# Altium integrated library ST Microcontroller 8-Bit.IntLib: 1326 symbols (part 19 of 45)
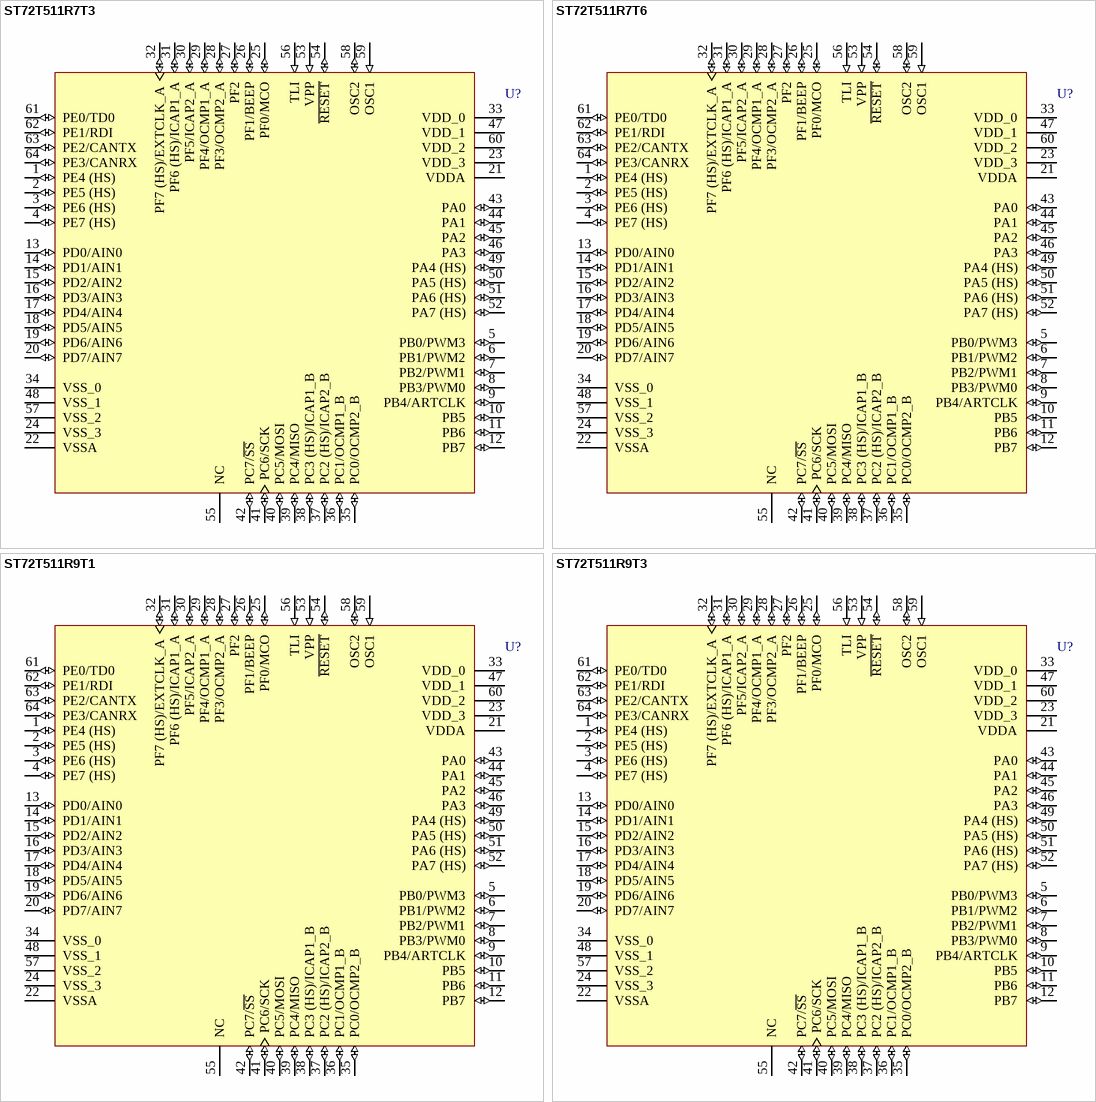
[diagram p185: symbols ST72T511R7T3 to ST72T511R9T3]

## ST72T511R7T6
designator U?
8-Bit 48k OTP MCU with Nested Interrupts, 1536b RAM, ADC, 16-Bit Timers, 8-Bit PWM ART, SPI, SCI and CAN Interfaces, 64-Pin TQFP, Industrial; Note: Pins 5-12, 25-27 and 43-46 are External Interrupt (EI) pins.; Published: 26-May-2004; LatestRevisionDate: 13-Apr-2006; LatestRevisionNote: IPC-7351 Footprint Added.; DatasheetVersion: rev2.7, Apr-2003; PackageVersion: rev2.4, Jan-2002; PackageReference: TQFP64-0.8; Publisher: Altium Limited; PackageDescription: 64-Pin Thin Quad Flat Pack 0.8 mm Pitch; ComponentLink1Description: Manufacturer Link; ComponentLink1URL: http://www.st.com/; ComponentLink2Description: Datasheet; ComponentLink2URL: http://www.st.com/stonline/products/literature/ds/6810/st72511r6.pdf
footprint TQFP64-0.8_N (Thin QFP, 64-Leads, Body 14x14mm, Pitch 0.8mm, IPC Medium Density)
footprint TQFP64-0.8_L (Thin QFP, 64-Leads, Body 14x14mm, Pitch 0.8mm, IPC High Density)
footprint TQFP64-0.8_M (Thin QFP, 64-Leads, Body 14x14mm, Pitch 0.8mm, IPC Low Density)
3D model ST72T511-TQFP64-0_8 (64-Pin Thin Quad Flat Pack 0.8 mm Pitch)
pins: 1 PE4 (HS) (io), 2 PE5 (HS) (io), 3 PE6 (HS) (io), 4 PE7 (HS) (io), 5 PB0/PWM3 (io), 6 PB1/PWM2 (io), 7 PB2/PWM1 (io), 8 PB3/PWM0 (io), 9 PB4/ARTCLK (io), 10 PB5 (io), 11 PB6 (io), 12 PB7 (io), 13 PD0/AIN0 (io), 14 PD1/AIN1 (io), 15 PD2/AIN2 (io), 16 PD3/AIN3 (io), 17 PD4/AIN4 (io), 18 PD5/AIN5 (io), 19 PD6/AIN6 (io), 20 PD7/AIN7 (io), 21 VDDA (power), 22 VSSA (power), 23 VDD_3 (power), 24 VSS_3 (power), 25 PF0/MCO (io), 26 PF1/BEEP (io), 27 PF2 (io), 28 PF3/OCMP2_A (io), 29 PF4/OCMP1_A (io), 30 PF5/ICAP2_A (io), 31 PF6 (HS)/ICAP1_A (io), 32 PF7 (HS)/EXTCLK_A (io), 33 VDD_0 (power), 34 VSS_0 (power), 35 PC0/OCMP2_B (io), 36 PC1/OCMP1_B (io), 37 PC2 (HS)/ICAP2_B (io), 38 PC3 (HS)/ICAP1_B (io), 39 PC4/MISO (io), 40 PC5/MOSI (io), 41 PC6/SCK (io), 42 PC7/~{SS} (io), 43 PA0 (io), 44 PA1 (io), 45 PA2 (io), 46 PA3 (io), 47 VDD_1 (power), 48 VSS_1 (power), 49 PA4 (HS) (io), 50 PA5 (HS) (io), 51 PA6 (HS) (io), 52 PA7 (HS) (io), 53 VPP (in), 54 ~{RESET} (io), 55 NC, 56 TLI (in), 57 VSS_2 (power), 58 OSC2 (io), 59 OSC1 (in), 60 VDD_2 (power), 61 PE0/TD0 (io), 62 PE1/RDI (io), 63 PE2/CANTX (io), 64 PE3/CANRX (io)

## ST72T511R9T1
designator U?
8-Bit 60k OTP MCU with Nested Interrupts, 2048b RAM, ADC, 16-Bit Timers, 8-Bit PWM ART, SPI, SCI and CAN Interfaces, 64-Pin TQFP, Standard; Note: Pins 5-12, 25-27 and 43-46 are External Interrupt (EI) pins.; Published: 26-May-2004; LatestRevisionDate: 13-Apr-2006; LatestRevisionNote: IPC-7351 Footprint Added.; DatasheetVersion: rev2.7, Apr-2003; PackageVersion: rev2.4, Jan-2002; PackageReference: TQFP64-0.8; Publisher: Altium Limited; PackageDescription: 64-Pin Thin Quad Flat Pack 0.8 mm Pitch; ComponentLink1Description: Manufacturer Link; ComponentLink1URL: http://www.st.com/; ComponentLink2Description: Datasheet; ComponentLink2URL: http://www.st.com/stonline/products/literature/ds/6810/st72511r9.pdf
footprint TQFP64-0.8_N (Thin QFP, 64-Leads, Body 14x14mm, Pitch 0.8mm, IPC Medium Density)
footprint TQFP64-0.8_L (Thin QFP, 64-Leads, Body 14x14mm, Pitch 0.8mm, IPC High Density)
footprint TQFP64-0.8_M (Thin QFP, 64-Leads, Body 14x14mm, Pitch 0.8mm, IPC Low Density)
3D model ST72T511-TQFP64-0_8 (64-Pin Thin Quad Flat Pack 0.8 mm Pitch)
pins: 1 PE4 (HS) (io), 2 PE5 (HS) (io), 3 PE6 (HS) (io), 4 PE7 (HS) (io), 5 PB0/PWM3 (io), 6 PB1/PWM2 (io), 7 PB2/PWM1 (io), 8 PB3/PWM0 (io), 9 PB4/ARTCLK (io), 10 PB5 (io), 11 PB6 (io), 12 PB7 (io), 13 PD0/AIN0 (io), 14 PD1/AIN1 (io), 15 PD2/AIN2 (io), 16 PD3/AIN3 (io), 17 PD4/AIN4 (io), 18 PD5/AIN5 (io), 19 PD6/AIN6 (io), 20 PD7/AIN7 (io), 21 VDDA (power), 22 VSSA (power), 23 VDD_3 (power), 24 VSS_3 (power), 25 PF0/MCO (io), 26 PF1/BEEP (io), 27 PF2 (io), 28 PF3/OCMP2_A (io), 29 PF4/OCMP1_A (io), 30 PF5/ICAP2_A (io), 31 PF6 (HS)/ICAP1_A (io), 32 PF7 (HS)/EXTCLK_A (io), 33 VDD_0 (power), 34 VSS_0 (power), 35 PC0/OCMP2_B (io), 36 PC1/OCMP1_B (io), 37 PC2 (HS)/ICAP2_B (io), 38 PC3 (HS)/ICAP1_B (io), 39 PC4/MISO (io), 40 PC5/MOSI (io), 41 PC6/SCK (io), 42 PC7/~{SS} (io), 43 PA0 (io), 44 PA1 (io), 45 PA2 (io), 46 PA3 (io), 47 VDD_1 (power), 48 VSS_1 (power), 49 PA4 (HS) (io), 50 PA5 (HS) (io), 51 PA6 (HS) (io), 52 PA7 (HS) (io), 53 VPP (in), 54 ~{RESET} (io), 55 NC, 56 TLI (in), 57 VSS_2 (power), 58 OSC2 (io), 59 OSC1 (in), 60 VDD_2 (power), 61 PE0/TD0 (io), 62 PE1/RDI (io), 63 PE2/CANTX (io), 64 PE3/CANRX (io)

## ST72T511R9T3
designator U?
8-Bit 60k OTP MCU with Nested Interrupts, 2048b RAM, ADC, 16-Bit Timers, 8-Bit PWM ART, SPI, SCI and CAN Interfaces, 64-Pin TQFP, Automotive; Note: Pins 5-12, 25-27 and 43-46 are External Interrupt (EI) pins.; Published: 26-May-2004; LatestRevisionDate: 13-Apr-2006; LatestRevisionNote: IPC-7351 Footprint Added.; DatasheetVersion: rev2.7, Apr-2003; PackageVersion: rev2.4, Jan-2002; PackageReference: TQFP64-0.8; Publisher: Altium Limited; PackageDescription: 64-Pin Thin Quad Flat Pack 0.8 mm Pitch; ComponentLink1Description: Manufacturer Link; ComponentLink1URL: http://www.st.com/; ComponentLink2Description: Datasheet; ComponentLink2URL: http://www.st.com/stonline/products/literature/ds/6810/st72511r9.pdf
footprint TQFP64-0.8_N (Thin QFP, 64-Leads, Body 14x14mm, Pitch 0.8mm, IPC Medium Density)
footprint TQFP64-0.8_L (Thin QFP, 64-Leads, Body 14x14mm, Pitch 0.8mm, IPC High Density)
footprint TQFP64-0.8_M (Thin QFP, 64-Leads, Body 14x14mm, Pitch 0.8mm, IPC Low Density)
3D model ST72T511-TQFP64-0_8 (64-Pin Thin Quad Flat Pack 0.8 mm Pitch)
pins: 1 PE4 (HS) (io), 2 PE5 (HS) (io), 3 PE6 (HS) (io), 4 PE7 (HS) (io), 5 PB0/PWM3 (io), 6 PB1/PWM2 (io), 7 PB2/PWM1 (io), 8 PB3/PWM0 (io), 9 PB4/ARTCLK (io), 10 PB5 (io), 11 PB6 (io), 12 PB7 (io), 13 PD0/AIN0 (io), 14 PD1/AIN1 (io), 15 PD2/AIN2 (io), 16 PD3/AIN3 (io), 17 PD4/AIN4 (io), 18 PD5/AIN5 (io), 19 PD6/AIN6 (io), 20 PD7/AIN7 (io), 21 VDDA (power), 22 VSSA (power), 23 VDD_3 (power), 24 VSS_3 (power), 25 PF0/MCO (io), 26 PF1/BEEP (io), 27 PF2 (io), 28 PF3/OCMP2_A (io), 29 PF4/OCMP1_A (io), 30 PF5/ICAP2_A (io), 31 PF6 (HS)/ICAP1_A (io), 32 PF7 (HS)/EXTCLK_A (io), 33 VDD_0 (power), 34 VSS_0 (power), 35 PC0/OCMP2_B (io), 36 PC1/OCMP1_B (io), 37 PC2 (HS)/ICAP2_B (io), 38 PC3 (HS)/ICAP1_B (io), 39 PC4/MISO (io), 40 PC5/MOSI (io), 41 PC6/SCK (io), 42 PC7/~{SS} (io), 43 PA0 (io), 44 PA1 (io), 45 PA2 (io), 46 PA3 (io), 47 VDD_1 (power), 48 VSS_1 (power), 49 PA4 (HS) (io), 50 PA5 (HS) (io), 51 PA6 (HS) (io), 52 PA7 (HS) (io), 53 VPP (in), 54 ~{RESET} (io), 55 NC, 56 TLI (in), 57 VSS_2 (power), 58 OSC2 (io), 59 OSC1 (in), 60 VDD_2 (power), 61 PE0/TD0 (io), 62 PE1/RDI (io), 63 PE2/CANTX (io), 64 PE3/CANRX (io)

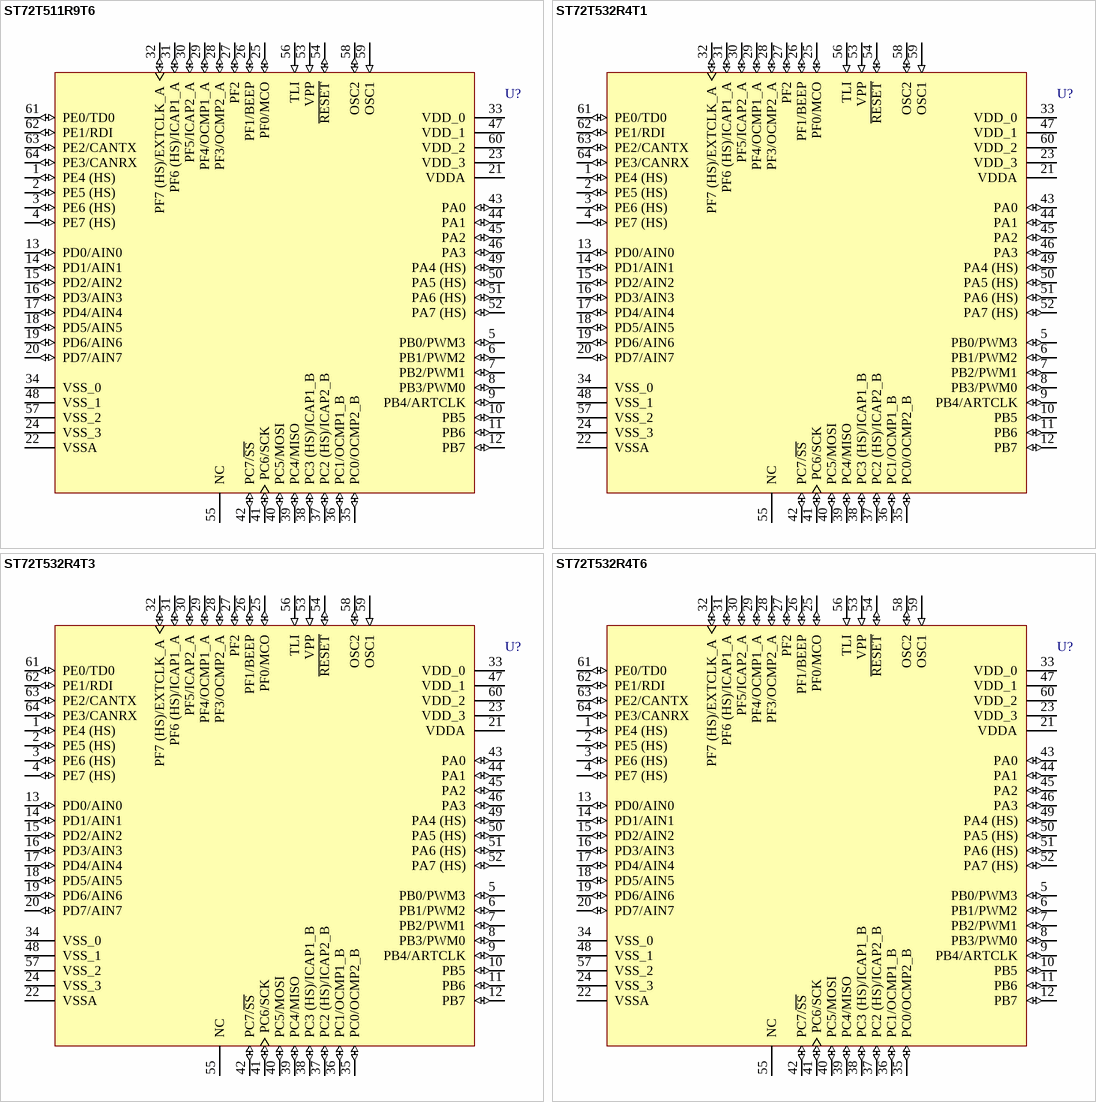
[diagram p63: symbols ST72T511R9T6 to ST72T532R4T6]

## ST72T511R9T6
designator U?
8-Bit 60k OTP MCU with Nested Interrupts, 2048b RAM, ADC, 16-Bit Timers, 8-Bit PWM ART, SPI, SCI and CAN Interfaces, 64-Pin TQFP, Industrial; Note: Pins 5-12, 25-27 and 43-46 are External Interrupt (EI) pins.; Published: 26-May-2004; LatestRevisionDate: 13-Apr-2006; LatestRevisionNote: IPC-7351 Footprint Added.; DatasheetVersion: rev2.7, Apr-2003; PackageVersion: rev2.4, Jan-2002; PackageReference: TQFP64-0.8; Publisher: Altium Limited; PackageDescription: 64-Pin Thin Quad Flat Pack 0.8 mm Pitch; ComponentLink1Description: Manufacturer Link; ComponentLink1URL: http://www.st.com/; ComponentLink2Description: Datasheet; ComponentLink2URL: http://www.st.com/stonline/products/literature/ds/6810/st72511r9.pdf
footprint TQFP64-0.8_N (Thin QFP, 64-Leads, Body 14x14mm, Pitch 0.8mm, IPC Medium Density)
footprint TQFP64-0.8_L (Thin QFP, 64-Leads, Body 14x14mm, Pitch 0.8mm, IPC High Density)
footprint TQFP64-0.8_M (Thin QFP, 64-Leads, Body 14x14mm, Pitch 0.8mm, IPC Low Density)
3D model ST72T511-TQFP64-0_8 (64-Pin Thin Quad Flat Pack 0.8 mm Pitch)
pins: 1 PE4 (HS) (io), 2 PE5 (HS) (io), 3 PE6 (HS) (io), 4 PE7 (HS) (io), 5 PB0/PWM3 (io), 6 PB1/PWM2 (io), 7 PB2/PWM1 (io), 8 PB3/PWM0 (io), 9 PB4/ARTCLK (io), 10 PB5 (io), 11 PB6 (io), 12 PB7 (io), 13 PD0/AIN0 (io), 14 PD1/AIN1 (io), 15 PD2/AIN2 (io), 16 PD3/AIN3 (io), 17 PD4/AIN4 (io), 18 PD5/AIN5 (io), 19 PD6/AIN6 (io), 20 PD7/AIN7 (io), 21 VDDA (power), 22 VSSA (power), 23 VDD_3 (power), 24 VSS_3 (power), 25 PF0/MCO (io), 26 PF1/BEEP (io), 27 PF2 (io), 28 PF3/OCMP2_A (io), 29 PF4/OCMP1_A (io), 30 PF5/ICAP2_A (io), 31 PF6 (HS)/ICAP1_A (io), 32 PF7 (HS)/EXTCLK_A (io), 33 VDD_0 (power), 34 VSS_0 (power), 35 PC0/OCMP2_B (io), 36 PC1/OCMP1_B (io), 37 PC2 (HS)/ICAP2_B (io), 38 PC3 (HS)/ICAP1_B (io), 39 PC4/MISO (io), 40 PC5/MOSI (io), 41 PC6/SCK (io), 42 PC7/~{SS} (io), 43 PA0 (io), 44 PA1 (io), 45 PA2 (io), 46 PA3 (io), 47 VDD_1 (power), 48 VSS_1 (power), 49 PA4 (HS) (io), 50 PA5 (HS) (io), 51 PA6 (HS) (io), 52 PA7 (HS) (io), 53 VPP (in), 54 ~{RESET} (io), 55 NC, 56 TLI (in), 57 VSS_2 (power), 58 OSC2 (io), 59 OSC1 (in), 60 VDD_2 (power), 61 PE0/TD0 (io), 62 PE1/RDI (io), 63 PE2/CANTX (io), 64 PE3/CANRX (io)

## ST72T532R4T1
designator U?
8-Bit 16k OTP MCU with Nested Interrupts, 1024b RAM, EEPROM, ADC, 16-Bit Timers, SPI, SCI and CAN Interfaces, 64-Pin TQFP, Standard; Note: Pins 5-12, 25-27 and 43-46 are External Interrupt (EI) pins.; Published: 26-May-2004; LatestRevisionDate: 13-Apr-2006; LatestRevisionNote: IPC-7351 Footprint Added.; DatasheetVersion: rev2.7, Apr-2003; PackageVersion: rev2.4, Jan-2002; PackageReference: TQFP64-0.8; Publisher: Altium Limited; PackageDescription: 64-Pin Thin Quad Flat Pack 0.8 mm Pitch; ComponentLink1Description: Manufacturer Link; ComponentLink1URL: http://www.st.com/; ComponentLink2Description: Datasheet; ComponentLink2URL: http://www.st.com/stonline/products/literature/ds/6810/st72311r9.pdf
footprint TQFP64-0.8_N (Thin QFP, 64-Leads, Body 14x14mm, Pitch 0.8mm, IPC Medium Density)
footprint TQFP64-0.8_L (Thin QFP, 64-Leads, Body 14x14mm, Pitch 0.8mm, IPC High Density)
footprint TQFP64-0.8_M (Thin QFP, 64-Leads, Body 14x14mm, Pitch 0.8mm, IPC Low Density)
3D model ST72T532-TQFP64-0_8 (64-Pin Thin Quad Flat Pack 0.8 mm Pitch)
pins: 1 PE4 (HS) (io), 2 PE5 (HS) (io), 3 PE6 (HS) (io), 4 PE7 (HS) (io), 5 PB0/PWM3 (io), 6 PB1/PWM2 (io), 7 PB2/PWM1 (io), 8 PB3/PWM0 (io), 9 PB4/ARTCLK (io), 10 PB5 (io), 11 PB6 (io), 12 PB7 (io), 13 PD0/AIN0 (io), 14 PD1/AIN1 (io), 15 PD2/AIN2 (io), 16 PD3/AIN3 (io), 17 PD4/AIN4 (io), 18 PD5/AIN5 (io), 19 PD6/AIN6 (io), 20 PD7/AIN7 (io), 21 VDDA (power), 22 VSSA (power), 23 VDD_3 (power), 24 VSS_3 (power), 25 PF0/MCO (io), 26 PF1/BEEP (io), 27 PF2 (io), 28 PF3/OCMP2_A (io), 29 PF4/OCMP1_A (io), 30 PF5/ICAP2_A (io), 31 PF6 (HS)/ICAP1_A (io), 32 PF7 (HS)/EXTCLK_A (io), 33 VDD_0 (power), 34 VSS_0 (power), 35 PC0/OCMP2_B (io), 36 PC1/OCMP1_B (io), 37 PC2 (HS)/ICAP2_B (io), 38 PC3 (HS)/ICAP1_B (io), 39 PC4/MISO (io), 40 PC5/MOSI (io), 41 PC6/SCK (io), 42 PC7/~{SS} (io), 43 PA0 (io), 44 PA1 (io), 45 PA2 (io), 46 PA3 (io), 47 VDD_1 (power), 48 VSS_1 (power), 49 PA4 (HS) (io), 50 PA5 (HS) (io), 51 PA6 (HS) (io), 52 PA7 (HS) (io), 53 VPP (in), 54 ~{RESET} (io), 55 NC, 56 TLI (in), 57 VSS_2 (power), 58 OSC2 (io), 59 OSC1 (in), 60 VDD_2 (power), 61 PE0/TD0 (io), 62 PE1/RDI (io), 63 PE2/CANTX (io), 64 PE3/CANRX (io)

## ST72T532R4T3
designator U?
8-Bit 16k OTP MCU with Nested Interrupts, 1024b RAM, EEPROM, ADC, 16-Bit Timers, SPI, SCI and CAN Interfaces, 64-Pin TQFP, Automotive; Note: Pins 5-12, 25-27 and 43-46 are External Interrupt (EI) pins.; Published: 26-May-2004; LatestRevisionDate: 13-Apr-2006; LatestRevisionNote: IPC-7351 Footprint Added.; DatasheetVersion: rev2.7, Apr-2003; PackageVersion: rev2.4, Jan-2002; PackageReference: TQFP64-0.8; Publisher: Altium Limited; PackageDescription: 64-Pin Thin Quad Flat Pack 0.8 mm Pitch; ComponentLink1Description: Manufacturer Link; ComponentLink1URL: http://www.st.com/; ComponentLink2Description: Datasheet; ComponentLink2URL: http://www.st.com/stonline/products/literature/ds/6810/st72311r9.pdf
footprint TQFP64-0.8_N (Thin QFP, 64-Leads, Body 14x14mm, Pitch 0.8mm, IPC Medium Density)
footprint TQFP64-0.8_L (Thin QFP, 64-Leads, Body 14x14mm, Pitch 0.8mm, IPC High Density)
footprint TQFP64-0.8_M (Thin QFP, 64-Leads, Body 14x14mm, Pitch 0.8mm, IPC Low Density)
3D model ST72T532-TQFP64-0_8 (64-Pin Thin Quad Flat Pack 0.8 mm Pitch)
pins: 1 PE4 (HS) (io), 2 PE5 (HS) (io), 3 PE6 (HS) (io), 4 PE7 (HS) (io), 5 PB0/PWM3 (io), 6 PB1/PWM2 (io), 7 PB2/PWM1 (io), 8 PB3/PWM0 (io), 9 PB4/ARTCLK (io), 10 PB5 (io), 11 PB6 (io), 12 PB7 (io), 13 PD0/AIN0 (io), 14 PD1/AIN1 (io), 15 PD2/AIN2 (io), 16 PD3/AIN3 (io), 17 PD4/AIN4 (io), 18 PD5/AIN5 (io), 19 PD6/AIN6 (io), 20 PD7/AIN7 (io), 21 VDDA (power), 22 VSSA (power), 23 VDD_3 (power), 24 VSS_3 (power), 25 PF0/MCO (io), 26 PF1/BEEP (io), 27 PF2 (io), 28 PF3/OCMP2_A (io), 29 PF4/OCMP1_A (io), 30 PF5/ICAP2_A (io), 31 PF6 (HS)/ICAP1_A (io), 32 PF7 (HS)/EXTCLK_A (io), 33 VDD_0 (power), 34 VSS_0 (power), 35 PC0/OCMP2_B (io), 36 PC1/OCMP1_B (io), 37 PC2 (HS)/ICAP2_B (io), 38 PC3 (HS)/ICAP1_B (io), 39 PC4/MISO (io), 40 PC5/MOSI (io), 41 PC6/SCK (io), 42 PC7/~{SS} (io), 43 PA0 (io), 44 PA1 (io), 45 PA2 (io), 46 PA3 (io), 47 VDD_1 (power), 48 VSS_1 (power), 49 PA4 (HS) (io), 50 PA5 (HS) (io), 51 PA6 (HS) (io), 52 PA7 (HS) (io), 53 VPP (in), 54 ~{RESET} (io), 55 NC, 56 TLI (in), 57 VSS_2 (power), 58 OSC2 (io), 59 OSC1 (in), 60 VDD_2 (power), 61 PE0/TD0 (io), 62 PE1/RDI (io), 63 PE2/CANTX (io), 64 PE3/CANRX (io)

## ST72T532R4T6
designator U?
8-Bit 16k OTP MCU with Nested Interrupts, 1024b RAM, EEPROM, ADC, 16-Bit Timers, SPI, SCI and CAN Interfaces, 64-Pin TQFP, Industrial; Note: Pins 5-12, 25-27 and 43-46 are External Interrupt (EI) pins.; Published: 26-May-2004; LatestRevisionDate: 13-Apr-2006; LatestRevisionNote: IPC-7351 Footprint Added.; DatasheetVersion: rev2.7, Apr-2003; PackageVersion: rev2.4, Jan-2002; PackageReference: TQFP64-0.8; Publisher: Altium Limited; PackageDescription: 64-Pin Thin Quad Flat Pack 0.8 mm Pitch; ComponentLink1Description: Manufacturer Link; ComponentLink1URL: http://www.st.com/; ComponentLink2Description: Datasheet; ComponentLink2URL: http://www.st.com/stonline/products/literature/ds/6810/st72311r9.pdf
footprint TQFP64-0.8_N (Thin QFP, 64-Leads, Body 14x14mm, Pitch 0.8mm, IPC Medium Density)
footprint TQFP64-0.8_L (Thin QFP, 64-Leads, Body 14x14mm, Pitch 0.8mm, IPC High Density)
footprint TQFP64-0.8_M (Thin QFP, 64-Leads, Body 14x14mm, Pitch 0.8mm, IPC Low Density)
3D model ST72T532-TQFP64-0_8 (64-Pin Thin Quad Flat Pack 0.8 mm Pitch)
pins: 1 PE4 (HS) (io), 2 PE5 (HS) (io), 3 PE6 (HS) (io), 4 PE7 (HS) (io), 5 PB0/PWM3 (io), 6 PB1/PWM2 (io), 7 PB2/PWM1 (io), 8 PB3/PWM0 (io), 9 PB4/ARTCLK (io), 10 PB5 (io), 11 PB6 (io), 12 PB7 (io), 13 PD0/AIN0 (io), 14 PD1/AIN1 (io), 15 PD2/AIN2 (io), 16 PD3/AIN3 (io), 17 PD4/AIN4 (io), 18 PD5/AIN5 (io), 19 PD6/AIN6 (io), 20 PD7/AIN7 (io), 21 VDDA (power), 22 VSSA (power), 23 VDD_3 (power), 24 VSS_3 (power), 25 PF0/MCO (io), 26 PF1/BEEP (io), 27 PF2 (io), 28 PF3/OCMP2_A (io), 29 PF4/OCMP1_A (io), 30 PF5/ICAP2_A (io), 31 PF6 (HS)/ICAP1_A (io), 32 PF7 (HS)/EXTCLK_A (io), 33 VDD_0 (power), 34 VSS_0 (power), 35 PC0/OCMP2_B (io), 36 PC1/OCMP1_B (io), 37 PC2 (HS)/ICAP2_B (io), 38 PC3 (HS)/ICAP1_B (io), 39 PC4/MISO (io), 40 PC5/MOSI (io), 41 PC6/SCK (io), 42 PC7/~{SS} (io), 43 PA0 (io), 44 PA1 (io), 45 PA2 (io), 46 PA3 (io), 47 VDD_1 (power), 48 VSS_1 (power), 49 PA4 (HS) (io), 50 PA5 (HS) (io), 51 PA6 (HS) (io), 52 PA7 (HS) (io), 53 VPP (in), 54 ~{RESET} (io), 55 NC, 56 TLI (in), 57 VSS_2 (power), 58 OSC2 (io), 59 OSC1 (in), 60 VDD_2 (power), 61 PE0/TD0 (io), 62 PE1/RDI (io), 63 PE2/CANTX (io), 64 PE3/CANRX (io)

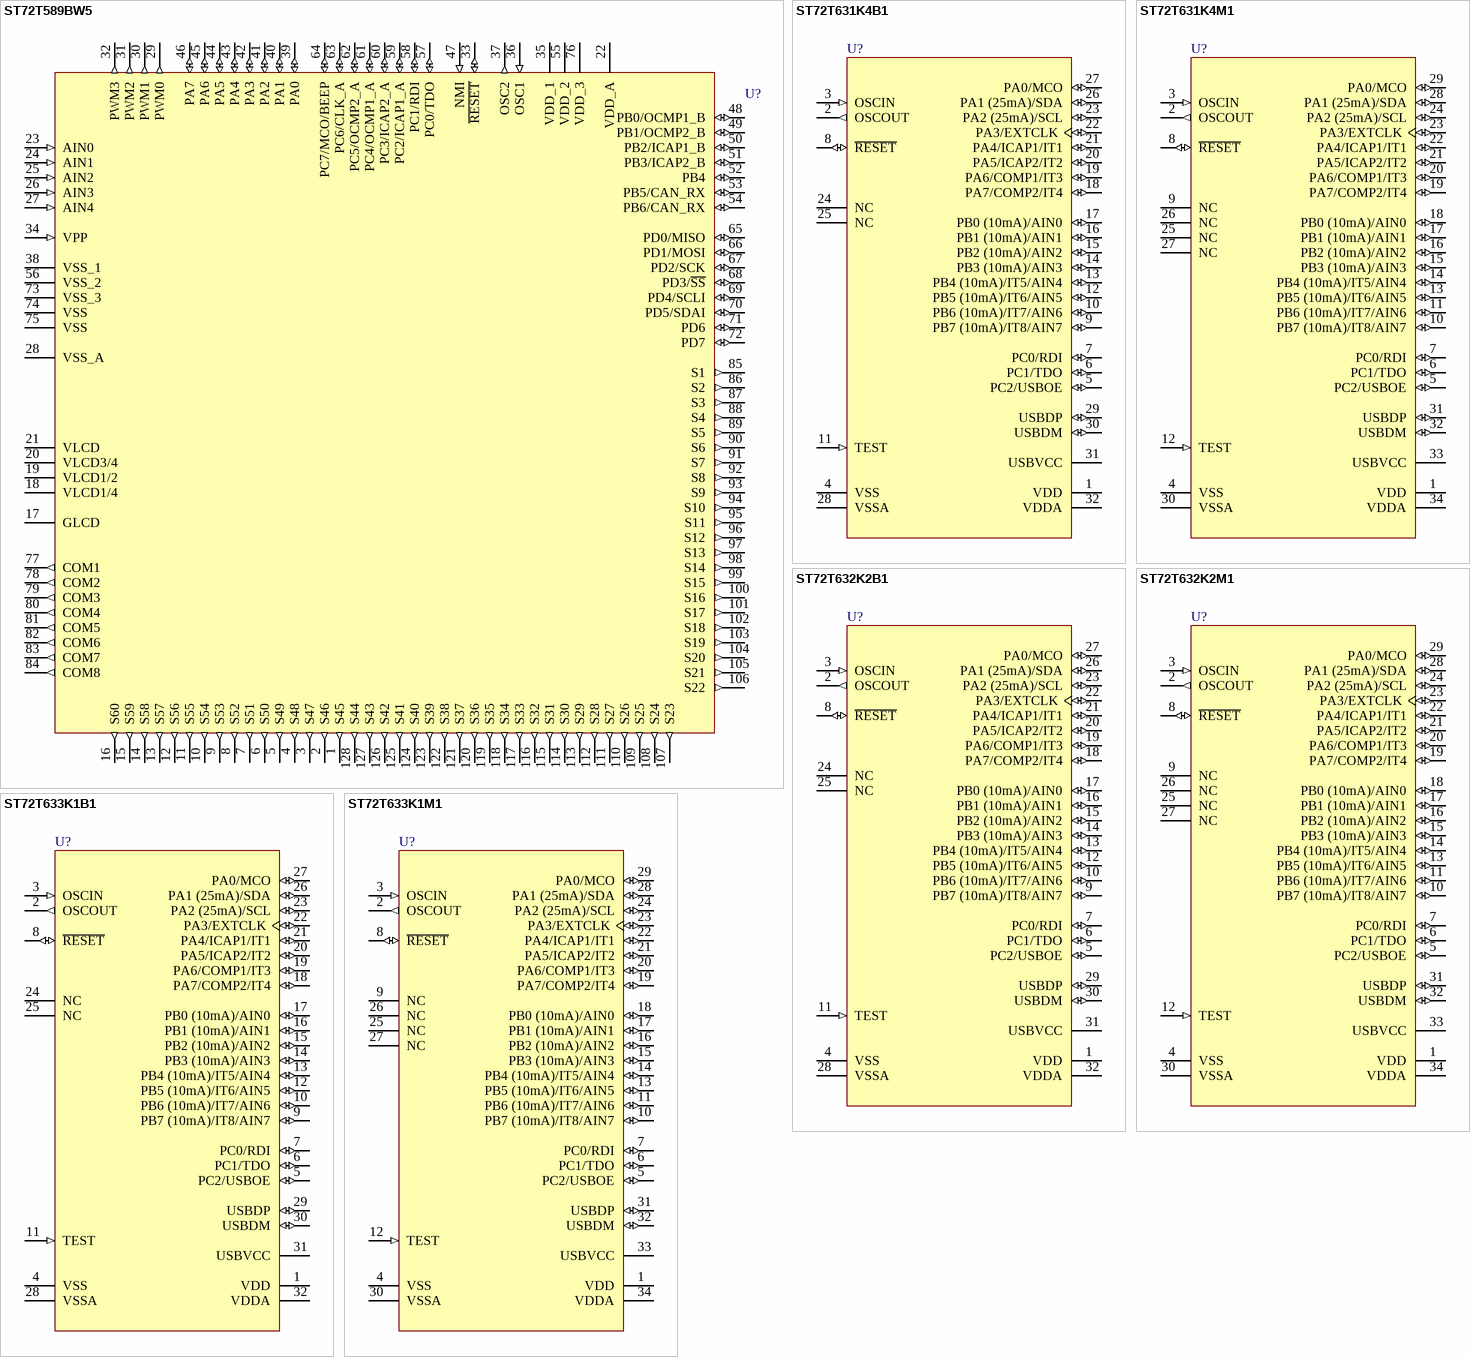
[diagram p64: symbols ST72T589BW5 to ST72T633K1M1]

## ST72T589BW5
designator U?
8-Bit 24k OTP MCU with Nested Interrupts, 1024b RAM, Dot Matrix LCD, ADC, Timers, PWM-BRM, SPI, SCI, I²C and CAN Interfaces, 128-Pin PQFP; Note: Pins 39-46, 58-54, 57-68, 71 and 72 are External Interrupt (EI) pins.; Published: 26-May-2004; LatestRevisionDate: 13-Apr-2006; LatestRevisionNote: IPC-7351 Footprint Added.; DatasheetVersion: rev2.7, Jun-2003; PackageVersion: Jun-2003; PackageReference: RQFP128; Publisher: Altium Limited; PackageDescription: 128-Pin Plastic Shrink Quad Flat Pack Rectangular 0.5 mm Pitch; ComponentLink1Description: Manufacturer Link; ComponentLink1URL: http://www.st.com/
footprint RQFP128_N (Shrink QFP, 128-Leads, Body 20x14 mm, Pitch 0.5mm, IPC Medium Density)
footprint RQFP128_L (Shrink QFP, 128-Leads, Body 20x14 mm, Pitch 0.5mm, IPC High Density)
footprint RQFP128_M (Shrink QFP, 128-Leads, Body 20x14 mm, Pitch 0.5mm, IPC Low Density)
3D model ST72T589-RQFP128 (128-Pin Plastic Shrink Quad Flat Pack Rectangular 0.5 mm Pitch)
pins: 1 S45 (out), 2 S46 (out), 3 S47 (out), 4 S48 (out), 5 S49 (out), 6 S50 (out), 7 S51 (out), 8 S52 (out), 9 S53 (out), 10 S54 (out), 11 S55 (out), 12 S56 (out), 13 S57 (out), 14 S58 (out), 15 S59 (out), 16 S60 (out), 17 GLCD (power), 18 VLCD1/4 (power), 19 VLCD1/2 (power), 20 VLCD3/4 (power), 21 VLCD (power), 22 VDD_A (power), 23 AIN0 (in), 24 AIN1 (in), 25 AIN2 (in), 26 AIN3 (in), 27 AIN4 (in), 28 VSS_A (power), 29 PWM0 (out), 30 PWM1 (out), 31 PWM2 (out), 32 PWM3 (out), 33 ~{RESET} (io), 34 VPP (in), 35 VDD_1 (power), 36 OSC1 (in), 37 OSC2 (out), 38 VSS_1 (power), 39 PA0 (io), 40 PA1 (io), 41 PA2 (io), 42 PA3 (io), 43 PA4 (io), 44 PA5 (io), 45 PA6 (io), 46 PA7 (io), 47 NMI (in), 48 PB0/OCMP1_B (io), 49 PB1/OCMP2_B (io), 50 PB2/ICAP1_B (io), 51 PB3/ICAP2_B (io), 52 PB4 (io), 53 PB5/CAN_RX (io), 54 PB6/CAN_RX (io), 55 VDD_2 (power), 56 VSS_2 (power), 57 PC0/TDO (io), 58 PC1/RDI (io), 59 PC2/ICAP1_A (io), 60 PC3/ICAP2_A (io), 61 PC4/OCMP1_A (io), 62 PC5/OCMP2_A (io), 63 PC6/CLK_A (io), 64 PC7/MCO/BEEP (io), 65 PD0/MISO (io), 66 PD1/MOSI (io), 67 PD2/SCK (io), 68 PD3/~{SS} (io), 69 PD4/SCLI (io), 70 PD5/SDAI (io), 71 PD6 (io), 72 PD7 (io), 73 VSS_3 (power), 74 VSS (power), 75 VSS (power), 76 VDD_3 (power), 77 COM1 (out), 78 COM2 (out), 79 COM3 (out), 80 COM4 (out), 81 COM5 (out), 82 COM6 (out), 83 COM7 (out), 84 COM8 (out), 85 S1 (out), 86 S2 (out), 87 S3 (out), 88 S4 (out), 89 S5 (out), 90 S6 (out), 91 S7 (out), 92 S8 (out), 93 S9 (out), 94 S10 (out), 95 S11 (out), 96 S12 (out), 97 S13 (out), 98 S14 (out), 99 S15 (out), 100 S16 (out), 101 S17 (out), 102 S18 (out), 103 S19 (out), 104 S20 (out), 105 S21 (out), 106 S22 (out), 107 S23 (out), 108 S24 (out), 109 S25 (out), 110 S26 (out), 111 S27 (out), 112 S28 (out), 113 S29 (out), 114 S30 (out), 115 S31 (out), 116 S32 (out), 117 S33 (out), 118 S34 (out), 119 S35 (out), 120 S36 (out), 121 S37 (out), 122 S38 (out), 123 S39 (out), 124 S40 (out), 125 S41 (out), 126 S42 (out), 127 S43 (out), 128 S44 (out)

## ST72T631K4B1
designator U?
8-Bit MCU with 16k OTP, 512b RAM, Low Speed USB, 8-Bit ADC, WDG, 16-Bit Timer, SCI, USB and I²C, 32-Pin PDIP; Published: 26-May-2004; LatestRevisionDate: 06-Jun-2005; LatestRevisionNote: Stylized 3D Model Added.; DatasheetVersion: rev1.8, Aug-2000; PackageVersion: rev1.7, Oct-2001; PackageReference: PSDIP32; Publisher: Altium Limited; PackageDescription: DIP, Plastic Shrink; 32 Leads; Row Spacing 10.16 mm; Pitch 1.78 mm; ComponentLink1Description: Manufacturer Link; ComponentLink1URL: http://www.st.com/; ComponentLink2Description: Datasheet; ComponentLink2URL: http://www.st.com/stonline/products/literature/ds/6341/st72631k4.pdf
footprint PSDIP32 (DIP, Plastic Shrink; 32 Leads; Row Spacing 10.16 mm; Pitch 1.78 mm)
3D model PSDIP32 (DIP, Plastic Shrink; 32 Leads; Row Spacing 10.16 mm; Pitch 1.78 mm)
pins: 1 VDD (power), 2 OSCOUT (out), 3 OSCIN (in), 4 VSS (power), 5 PC2/USBOE (io), 6 PC1/TDO (io), 7 PC0/RDI (io), 8 ~{RESET} (io), 9 PB7 (10mA)/IT8/AIN7 (io), 10 PB6 (10mA)/IT7/AIN6 (io), 11 TEST (in), 12 PB5 (10mA)/IT6/AIN5 (io), 13 PB4 (10mA)/IT5/AIN4 (io), 14 PB3 (10mA)/AIN3 (io), 15 PB2 (10mA)/AIN2 (io), 16 PB1 (10mA)/AIN1 (io), 17 PB0 (10mA)/AIN0 (io), 18 PA7/COMP2/IT4 (io), 19 PA6/COMP1/IT3 (io), 20 PA5/ICAP2/IT2 (io), 21 PA4/ICAP1/IT1 (io), 22 PA3/EXTCLK (io), 23 PA2 (25mA)/SCL (io), 24 NC, 25 NC, 26 PA1 (25mA)/SDA (io), 27 PA0/MCO (io), 28 VSSA (power), 29 USBDP (io), 30 USBDM (io), 31 USBVCC (power), 32 VDDA (power)

## ST72T631K4M1
designator U?
8-Bit MCU with 16k OTP, 512b RAM, Low Speed USB, 8-Bit ADC, WDG, 16-Bit Timer, SCI, USB and I²C, 34-Pin SOIC; Published: 26-May-2004; LatestRevisionDate: 13-Apr-2006; LatestRevisionNote: IPC-7351 Footprint Added.; DatasheetVersion: rev1.8, Aug-2000; PackageVersion: rev1.7, Oct-2001; PackageReference: SO34S; Publisher: Altium Limited; PackageDescription: 34-Pin Small Outline Package 1.02 mm Pitch; ComponentLink1Description: Manufacturer Link; ComponentLink1URL: http://www.st.com/; ComponentLink2Description: Datasheet; ComponentLink2URL: http://www.st.com/stonline/products/literature/ds/6341/st72631k4.pdf
footprint SO34S_N (SOP, 34-Leads, Body 17.9x7.51mm, Pitch 1.02mm, IPC Medium Density)
footprint SO34S_L (SOP, 34-Leads, Body 17.9x7.51mm, Pitch 1.02mm, IPC High Density)
footprint SO34S_M (SOP, 34-Leads, Body 17.9x7.51mm, Pitch 1.02mm, IPC Low Density)
3D model SO34S (34-Pin Small Outline Package 1.02 mm Pitch)
pins: 1 VDD (power), 2 OSCOUT (out), 3 OSCIN (in), 4 VSS (power), 5 PC2/USBOE (io), 6 PC1/TDO (io), 7 PC0/RDI (io), 8 ~{RESET} (io), 9 NC, 10 PB7 (10mA)/IT8/AIN7 (io), 11 PB6 (10mA)/IT7/AIN6 (io), 12 TEST (in), 13 PB5 (10mA)/IT6/AIN5 (io), 14 PB4 (10mA)/IT5/AIN4 (io), 15 PB3 (10mA)/AIN3 (io), 16 PB2 (10mA)/AIN2 (io), 17 PB1 (10mA)/AIN1 (io), 18 PB0 (10mA)/AIN0 (io), 19 PA7/COMP2/IT4 (io), 20 PA6/COMP1/IT3 (io), 21 PA5/ICAP2/IT2 (io), 22 PA4/ICAP1/IT1 (io), 23 PA3/EXTCLK (io), 24 PA2 (25mA)/SCL (io), 25 NC, 26 NC, 27 NC, 28 PA1 (25mA)/SDA (io), 29 PA0/MCO (io), 30 VSSA (power), 31 USBDP (io), 32 USBDM (io), 33 USBVCC (power), 34 VDDA (power)

## ST72T632K2B1
designator U?
8-Bit MCU with 8k OTP, 256b RAM, Low Speed USB, 8-Bit ADC, WDG, 16-Bit Timer, SCI and USB, 32-Pin PDIP; Published: 26-May-2004; LatestRevisionDate: 06-Jun-2005; LatestRevisionNote: Stylized 3D Model Added.; DatasheetVersion: rev1.8, Aug-2000; PackageVersion: rev1.7, Oct-2001; PackageReference: PSDIP32; Publisher: Altium Limited; PackageDescription: DIP, Plastic Shrink; 32 Leads; Row Spacing 10.16 mm; Pitch 1.78 mm; ComponentLink1Description: Manufacturer Link; ComponentLink1URL: http://www.st.com/; ComponentLink2Description: Datasheet; ComponentLink2URL: http://www.st.com/stonline/products/literature/ds/6341/st72631k4.pdf
footprint PSDIP32 (DIP, Plastic Shrink; 32 Leads; Row Spacing 10.16 mm; Pitch 1.78 mm)
3D model PSDIP32 (DIP, Plastic Shrink; 32 Leads; Row Spacing 10.16 mm; Pitch 1.78 mm)
pins: 1 VDD (power), 2 OSCOUT (out), 3 OSCIN (in), 4 VSS (power), 5 PC2/USBOE (io), 6 PC1/TDO (io), 7 PC0/RDI (io), 8 ~{RESET} (io), 9 PB7 (10mA)/IT8/AIN7 (io), 10 PB6 (10mA)/IT7/AIN6 (io), 11 TEST (in), 12 PB5 (10mA)/IT6/AIN5 (io), 13 PB4 (10mA)/IT5/AIN4 (io), 14 PB3 (10mA)/AIN3 (io), 15 PB2 (10mA)/AIN2 (io), 16 PB1 (10mA)/AIN1 (io), 17 PB0 (10mA)/AIN0 (io), 18 PA7/COMP2/IT4 (io), 19 PA6/COMP1/IT3 (io), 20 PA5/ICAP2/IT2 (io), 21 PA4/ICAP1/IT1 (io), 22 PA3/EXTCLK (io), 23 PA2 (25mA)/SCL (io), 24 NC, 25 NC, 26 PA1 (25mA)/SDA (io), 27 PA0/MCO (io), 28 VSSA (power), 29 USBDP (io), 30 USBDM (io), 31 USBVCC (power), 32 VDDA (power)

## ST72T632K2M1
designator U?
8-Bit MCU with 8k OTP, 256b RAM, Low Speed USB, 8-Bit ADC, WDG, 16-Bit Timer, SCI and USB, 34-Pin SOIC; Published: 26-May-2004; LatestRevisionDate: 13-Apr-2006; LatestRevisionNote: IPC-7351 Footprint Added.; DatasheetVersion: rev1.8, Aug-2000; PackageVersion: rev1.7, Oct-2001; PackageReference: SO34S; Publisher: Altium Limited; PackageDescription: 34-Pin Small Outline Package 1.02 mm Pitch; ComponentLink1Description: Manufacturer Link; ComponentLink1URL: http://www.st.com/; ComponentLink2Description: Datasheet; ComponentLink2URL: http://www.st.com/stonline/products/literature/ds/6341/st72631k4.pdf
footprint SO34S_N (SOP, 34-Leads, Body 17.9x7.51mm, Pitch 1.02mm, IPC Medium Density)
footprint SO34S_L (SOP, 34-Leads, Body 17.9x7.51mm, Pitch 1.02mm, IPC High Density)
footprint SO34S_M (SOP, 34-Leads, Body 17.9x7.51mm, Pitch 1.02mm, IPC Low Density)
3D model SO34S (34-Pin Small Outline Package 1.02 mm Pitch)
pins: 1 VDD (power), 2 OSCOUT (out), 3 OSCIN (in), 4 VSS (power), 5 PC2/USBOE (io), 6 PC1/TDO (io), 7 PC0/RDI (io), 8 ~{RESET} (io), 9 NC, 10 PB7 (10mA)/IT8/AIN7 (io), 11 PB6 (10mA)/IT7/AIN6 (io), 12 TEST (in), 13 PB5 (10mA)/IT6/AIN5 (io), 14 PB4 (10mA)/IT5/AIN4 (io), 15 PB3 (10mA)/AIN3 (io), 16 PB2 (10mA)/AIN2 (io), 17 PB1 (10mA)/AIN1 (io), 18 PB0 (10mA)/AIN0 (io), 19 PA7/COMP2/IT4 (io), 20 PA6/COMP1/IT3 (io), 21 PA5/ICAP2/IT2 (io), 22 PA4/ICAP1/IT1 (io), 23 PA3/EXTCLK (io), 24 PA2 (25mA)/SCL (io), 25 NC, 26 NC, 27 NC, 28 PA1 (25mA)/SDA (io), 29 PA0/MCO (io), 30 VSSA (power), 31 USBDP (io), 32 USBDM (io), 33 USBVCC (power), 34 VDDA (power)

## ST72T633K1B1
designator U?
8-Bit MCU with 4k OTP, 256b RAM, Low Speed USB, 8-Bit ADC, WDG, 16-Bit Timer, USB, 32-Pin PDIP; Published: 26-May-2004; LatestRevisionDate: 06-Jun-2005; LatestRevisionNote: Stylized 3D Model Added.; DatasheetVersion: rev1.8, Aug-2000; PackageVersion: rev1.7, Oct-2001; PackageReference: PSDIP32; Publisher: Altium Limited; PackageDescription: DIP, Plastic Shrink; 32 Leads; Row Spacing 10.16 mm; Pitch 1.78 mm; ComponentLink1Description: Manufacturer Link; ComponentLink1URL: http://www.st.com/; ComponentLink2Description: Datasheet; ComponentLink2URL: http://www.st.com/stonline/products/literature/ds/6341/st72631k4.pdf
footprint PSDIP32 (DIP, Plastic Shrink; 32 Leads; Row Spacing 10.16 mm; Pitch 1.78 mm)
3D model PSDIP32 (DIP, Plastic Shrink; 32 Leads; Row Spacing 10.16 mm; Pitch 1.78 mm)
pins: 1 VDD (power), 2 OSCOUT (out), 3 OSCIN (in), 4 VSS (power), 5 PC2/USBOE (io), 6 PC1/TDO (io), 7 PC0/RDI (io), 8 ~{RESET} (io), 9 PB7 (10mA)/IT8/AIN7 (io), 10 PB6 (10mA)/IT7/AIN6 (io), 11 TEST (in), 12 PB5 (10mA)/IT6/AIN5 (io), 13 PB4 (10mA)/IT5/AIN4 (io), 14 PB3 (10mA)/AIN3 (io), 15 PB2 (10mA)/AIN2 (io), 16 PB1 (10mA)/AIN1 (io), 17 PB0 (10mA)/AIN0 (io), 18 PA7/COMP2/IT4 (io), 19 PA6/COMP1/IT3 (io), 20 PA5/ICAP2/IT2 (io), 21 PA4/ICAP1/IT1 (io), 22 PA3/EXTCLK (io), 23 PA2 (25mA)/SCL (io), 24 NC, 25 NC, 26 PA1 (25mA)/SDA (io), 27 PA0/MCO (io), 28 VSSA (power), 29 USBDP (io), 30 USBDM (io), 31 USBVCC (power), 32 VDDA (power)

## ST72T633K1M1
designator U?
8-Bit MCU with 4k OTP, 256b RAM, Low Speed USB, 8-Bit ADC, WDG, 16-Bit Timer, USB, 34-Pin SOIC; Published: 26-May-2004; LatestRevisionDate: 13-Apr-2006; LatestRevisionNote: IPC-7351 Footprint Added.; DatasheetVersion: rev1.8, Aug-2000; PackageVersion: rev1.7, Oct-2001; PackageReference: SO34S; Publisher: Altium Limited; PackageDescription: 34-Pin Small Outline Package 1.02 mm Pitch; ComponentLink1Description: Manufacturer Link; ComponentLink1URL: http://www.st.com/; ComponentLink2Description: Datasheet; ComponentLink2URL: http://www.st.com/stonline/products/literature/ds/6341/st72631k4.pdf
footprint SO34S_N (SOP, 34-Leads, Body 17.9x7.51mm, Pitch 1.02mm, IPC Medium Density)
footprint SO34S_L (SOP, 34-Leads, Body 17.9x7.51mm, Pitch 1.02mm, IPC High Density)
footprint SO34S_M (SOP, 34-Leads, Body 17.9x7.51mm, Pitch 1.02mm, IPC Low Density)
3D model SO34S (34-Pin Small Outline Package 1.02 mm Pitch)
pins: 1 VDD (power), 2 OSCOUT (out), 3 OSCIN (in), 4 VSS (power), 5 PC2/USBOE (io), 6 PC1/TDO (io), 7 PC0/RDI (io), 8 ~{RESET} (io), 9 NC, 10 PB7 (10mA)/IT8/AIN7 (io), 11 PB6 (10mA)/IT7/AIN6 (io), 12 TEST (in), 13 PB5 (10mA)/IT6/AIN5 (io), 14 PB4 (10mA)/IT5/AIN4 (io), 15 PB3 (10mA)/AIN3 (io), 16 PB2 (10mA)/AIN2 (io), 17 PB1 (10mA)/AIN1 (io), 18 PB0 (10mA)/AIN0 (io), 19 PA7/COMP2/IT4 (io), 20 PA6/COMP1/IT3 (io), 21 PA5/ICAP2/IT2 (io), 22 PA4/ICAP1/IT1 (io), 23 PA3/EXTCLK (io), 24 PA2 (25mA)/SCL (io), 25 NC, 26 NC, 27 NC, 28 PA1 (25mA)/SDA (io), 29 PA0/MCO (io), 30 VSSA (power), 31 USBDP (io), 32 USBDM (io), 33 USBVCC (power), 34 VDDA (power)

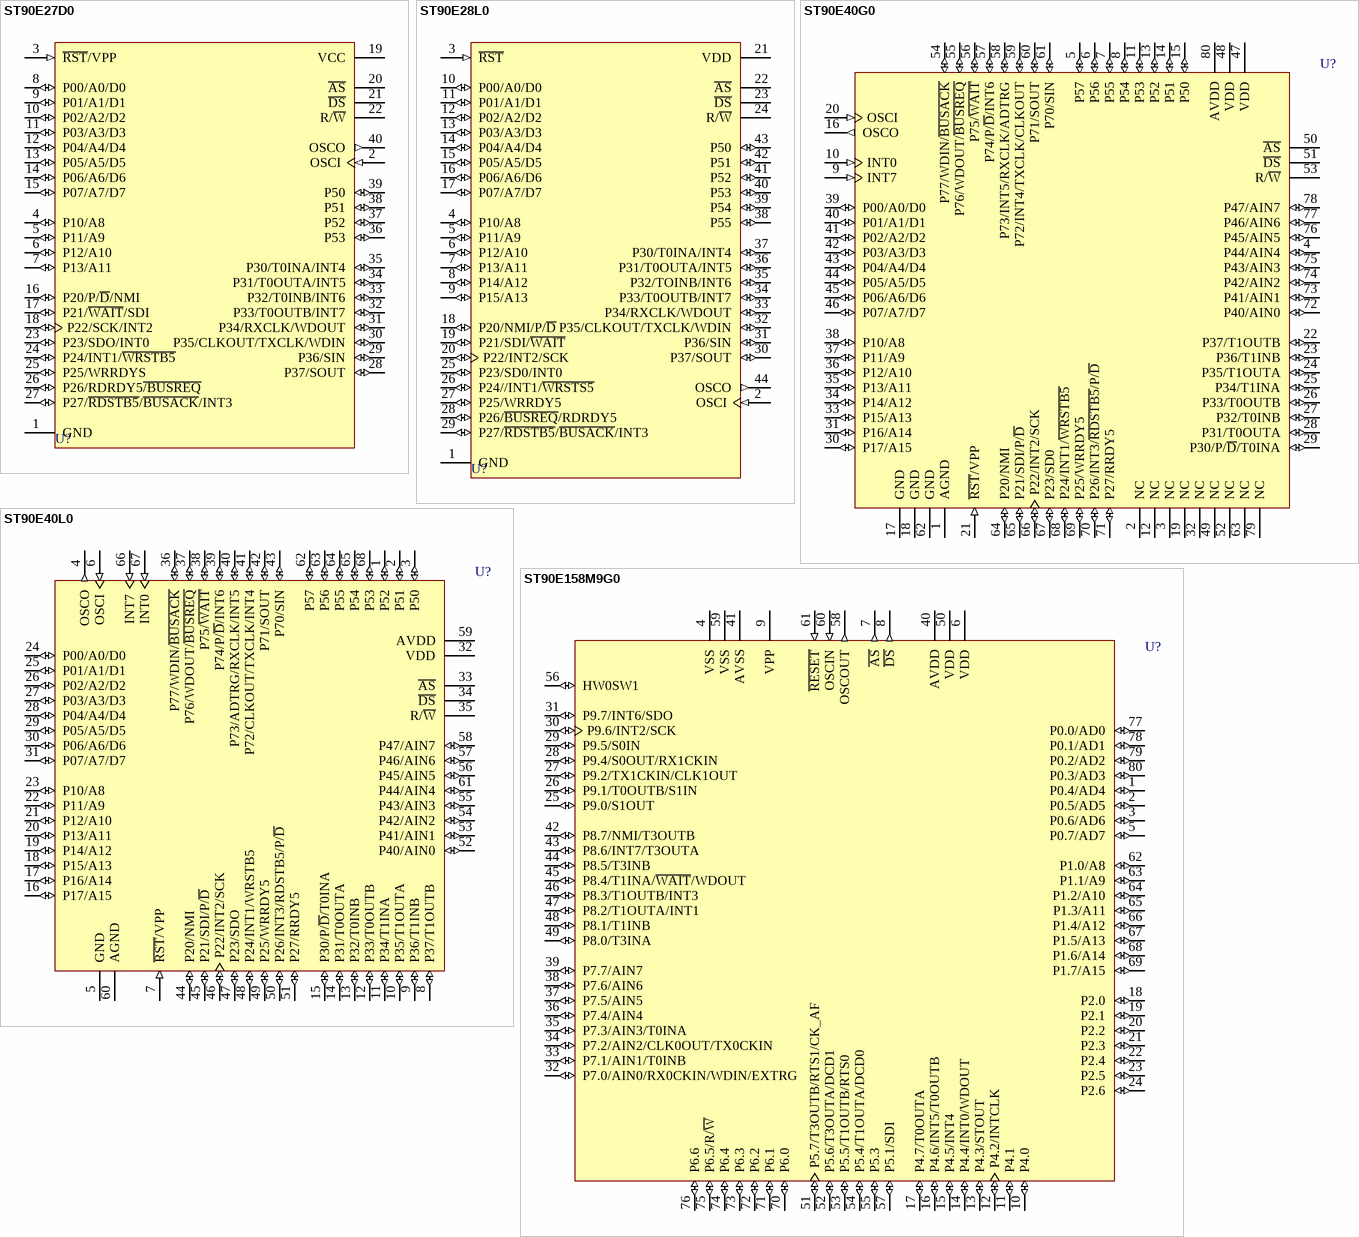
[diagram p65: symbols ST90E27D0 to ST90E158M9G0]

## ST90E27D0
designator U?
16K EPROM HCMOS MCU with RAM; Published: 24-Aug-2001; LatestRevisionDate: 06-Jun-2005; LatestRevisionNote: Stylized 3D Model Added.; DatasheetVersion: Jan-1995; PackageReference: CDIP40W; Publisher: Altium Limited; PackageDescription: DIP, Ceramic, Window; 40 Leads; Row Spacing 15.24 mm; Pitch 2.54 mm; ComponentLink1Description: Manufacturer Link; ComponentLink1URL: http://www.st.com/
footprint CDIP40W (DIP, Ceramic, Window; 40 Leads; Row Spacing 15.24 mm; Pitch 2.54 mm)
3D model CDIP40W (DIP, Ceramic, Window; 40 Leads; Row Spacing 15.24 mm; Pitch 2.54 mm)
pins: 1 GND (power), 2 OSCI (in), 3 ~{RST}/VPP (in), 4 P10/A8 (io), 5 P11/A9 (io), 6 P12/A10 (io), 7 P13/A11 (io), 8 P00/A0/D0 (io), 9 P01/A1/D1 (io), 10 P02/A2/D2 (io), 11 P03/A3/D3 (io), 12 P04/A4/D4 (io), 13 P05/A5/D5 (io), 14 P06/A6/D6 (io), 15 P07/A7/D7 (io), 16 P20/P/~{D}/NMI (io), 17 P21/~{WAIT}/SDI (io), 18 P22/SCK/INT2 (io), 19 VCC (power), 20 ~{AS} (hiz), 21 ~{DS} (hiz), 22 R/~{W} (hiz), 23 P23/SDO/INT0 (io), 24 P24/INT1/~{WRSTB5} (io), 25 P25/WRRDYS (io), 26 P26/RDRDY5~{/BUSREQ} (io), 27 P27/~{RDSTB5}/~{BUSACK}/INT3 (io), 28 P37/SOUT (io), 29 P36/SIN (io), 30 P35/CLKOUT/TXCLK/WDIN (io), 31 P34/RXCLK/WDOUT (io), 32 P33/T0OUTB/INT7 (io), 33 P32/T0INB/INT6 (io), 34 P31/T0OUTA/INT5 (io), 35 P30/T0INA/INT4 (io), 36 P53 (io), 37 P52 (io), 38 P51 (io), 39 P50 (io), 40 OSCO (out)

## ST90E28L0
designator U?
16K EPROM HCMOS MCU with RAM; Published: 24-Aug-2001; LatestRevisionDate: 13-Apr-2006; LatestRevisionNote: IPC-7351 Footprint Added.; DatasheetVersion: Jan-1995; PackageReference: CLCC44; Publisher: Altium Limited; PackageDescription: 44-Pin Leaded Chip Carrier 1.27 mm Pitch; Code_IPC: PLCC-44; ComponentLink1Description: Manufacturer Link; ComponentLink1URL: http://www.st.com/
footprint CLCC44_N (Leaded Chip Carrier, 44-Leads, Body 16.5x16.5mm, Pitch 1.27mm, IPC Medium Density)
footprint CLCC44_L (Leaded Chip Carrier, 44-Leads, Body 16.5x16.5mm, Pitch 1.27mm, IPC High Density)
footprint CLCC44_M (Leaded Chip Carrier, 44-Leads, Body 16.5x16.5mm, Pitch 1.27mm, IPC Low Density)
3D model ST90E28-CLCC44 (44-Pin Leaded Chip Carrier 1.27 mm Pitch)
pins: 1 GND (power), 2 OSCI (in), 3 ~{RST} (in), 4 P10/A8 (io), 5 P11/A9 (io), 6 P12/A10 (io), 7 P13/A11 (io), 8 P14/A12 (io), 9 P15/A13 (io), 10 P00/A0/D0 (io), 11 P01/A1/D1 (io), 12 P02/A2/D2 (io), 13 P03/A3/D3 (io), 14 P04/A4/D4 (io), 15 P05/A5/D5 (io), 16 P06/A6/D6 (io), 17 P07/A7/D7 (io), 18 P20/NMI/P/~{D} (io), 19 P21/SDI/~{WAIT} (io), 20 P22/INT2/SCK (io), 21 VDD (power), 22 ~{AS} (hiz), 23 ~{DS} (hiz), 24 R/~{W} (hiz), 25 P23/SD0/INT0 (io), 26 P24//INT1/~{WRSTS5} (io), 27 P25/WRRDY5 (io), 28 P26/~{BUSREQ}/RDRDY5 (io), 29 P27/~{RDSTB5}/~{BUSACK}/INT3 (io), 30 P37/SOUT (io), 31 P36/SIN (io), 32 P35/CLKOUT/TXCLK/WDIN (io), 33 P34/RXCLK/WDOUT (io), 34 P33/T0OUTB/INT7 (io), 35 P32/TOINB/INT6 (io), 36 P31/T0OUTA/INT5 (io), 37 P30/T0INA/INT4 (io), 38 P55 (io), 39 P54 (io), 40 P53 (io), 41 P52 (io), 42 P51 (io), 43 P50 (io), 44 OSCO (out)

## ST90E40G0
designator U?
16K EPROM HCMOS MCU with EEPROM, RAM & A/D Converter; Published: 24-Aug-2001; LatestRevisionDate: 13-Apr-2006; LatestRevisionNote: IPC-7351 Footprint Added.; DatasheetVersion: Mar-1994; PackageVersion: rev3.3, Jan-2001; PackageReference: CQFP080; Publisher: Altium Limited; PackageDescription: 80-Pin Ceramic Quad Flat Pack Rectangular 0.8 mm Pitch; ComponentLink1Description: Manufacturer Link; ComponentLink1URL: http://www.st.com/
footprint CQFP080_N (QFP, 80-Leads, Body 20x14mm, Pitch 0.8mm, IPC Medium Density)
footprint CQFP080_L (QFP, 80-Leads, Body 20x14mm, Pitch 0.8mm, IPC High Density)
footprint CQFP080_M (QFP, 80-Leads, Body 20x14mm, Pitch 0.8mm, IPC Low Density)
3D model ST90E40-CQFP80 (80-Pin Ceramic Quad Flat Pack Rectangular 0.8 mm Pitch)
pins: 1 AGND (power), 2 NC, 3 NC, 4 P44/AIN4 (io), 5 P57 (io), 6 P56 (io), 7 P55 (io), 8 P54 (io), 9 INT7 (in), 10 INT0 (in), 11 P53 (io), 12 NC, 13 P52 (io), 14 P51 (io), 15 P50 (io), 16 OSCO (out), 17 GND (power), 18 GND (power), 19 NC, 20 OSCI (in), 21 ~{RST}/VPP (in), 22 P37/T1OUTB (io), 23 P36/T1INB (io), 24 P35/T1OUTA (io), 25 P34/T1INA (io), 26 P33/T0OUTB (io), 27 P32/T0INB (io), 28 P31/T0OUTA (io), 29 P30/P/~{D}/T0INA (io), 30 P17/A15 (io), 31 P16/A14 (io), 32 NC, 33 P15/A13 (io), 34 P14/A12 (io), 35 P13/A11 (io), 36 P12/A10 (io), 37 P11/A9 (io), 38 P10/A8 (io), 39 P00/A0/D0 (io), 40 P01/A1/D1 (io), 41 P02/A2/D2 (io), 42 P03/A3/D3 (io), 43 P04/A4/D4 (io), 44 P05/A5/D5 (io), 45 P06/A6/D6 (io), 46 P07/A7/D7 (io), 47 VDD (power), 48 VDD (power), 49 NC, 50 ~{AS} (hiz), 51 ~{DS} (hiz), 52 NC, 53 R/~{W} (hiz), 54 P77/WDIN/~{BUSACK} (io), 55 P76/WDOUT/~{BUSREQ} (io), 56 P75/~{WAIT} (io), 57 P74/P/~{D}/INT6 (io), 58 P73/INT5/RXCLK/ADTRG (io), 59 P72/INT4/TXCLK/CLKOUT (io), 60 P71/SOUT (io), 61 P70/SIN (io), 62 GND (power), 63 NC, 64 P20/NMI (io), 65 P21/SDI/P/~{D} (io), 66 P22/INT2/SCK (io), 67 P23/SD0 (io), 68 P24/INT1/~{WRSTB5} (io), 69 P25/WRRDY5 (io), 70 P26/INT3/~{RDSTB5}/P/~{D} (io), 71 P27/RRDY5 (io), 72 P40/AIN0 (io), 73 P41/AIN1 (io), 74 P42/AIN2 (io), 75 P43/AIN3 (io), 76 P45/AIN5 (io), 77 P46/AIN6 (io), 78 P47/AIN7 (io), 79 NC, 80 AVDD (power)

## ST90E40L0
designator U?
16K EPROM HCMOS MCU with EEPROM, RAM & A/D Converter; Published: 24-Aug-2001; LatestRevisionDate: 13-Apr-2006; LatestRevisionNote: IPC-7351 Footprint Added.; DatasheetVersion: Mar-1994; PackageReference: CLCC68W; Publisher: Altium Limited; PackageDescription: 68-Pin Leaded Chip Carrier 1.27 mm Pitch; Code_IPC: PLCC-68; ComponentLink1Description: Manufacturer Link; ComponentLink1URL: http://www.st.com/
footprint CLCC68W_N (Leaded Chip Carrier, 68-Leads, Body 23.6x23.6mm, Pitch 1.27mm, IPC Medium Density)
footprint CLCC68W_L (Leaded Chip Carrier, 68-Leads, Body 23.6x23.6mm, Pitch 1.27mm, IPC High Density)
footprint CLCC68W_M (Leaded Chip Carrier, 68-Leads, Body 23.6x23.6mm, Pitch 1.27mm, IPC Low Density)
3D model ST90E40-CLCC68 (68-Pin Leaded Chip Carrier 1.27 mm Pitch)
pins: 1 P52 (io), 2 P51 (io), 3 P50 (io), 4 OSCO (out), 5 GND (power), 6 OSCI (in), 7 ~{RST}/VPP (in), 8 P37/T1OUTB (io), 9 P36/T1INB (io), 10 P35/T1OUTA (io), 11 P34/T1INA (io), 12 P33/T0OUTB (io), 13 P32/T0INB (io), 14 P31/T0OUTA (io), 15 P30/P/~{D}/T0INA (io), 16 P17/A15 (io), 17 P16/A14 (io), 18 P15/A13 (io), 19 P14/A12 (io), 20 P13/A11 (io), 21 P12/A10 (io), 22 P11/A9 (io), 23 P10/A8 (io), 24 P00/A0/D0 (io), 25 P01/A1/D1 (io), 26 P02/A2/D2 (io), 27 P03/A3/D3 (io), 28 P04/A4/D4 (io), 29 P05/A5/D5 (io), 30 P06/A6/D6 (io), 31 P07/A7/D7 (io), 32 VDD (power), 33 ~{AS} (hiz), 34 ~{DS} (hiz), 35 R/~{W} (hiz), 36 P77/WDIN/~{BUSACK} (io), 37 P76/WDOUT/~{BUSREQ} (io), 38 P75/~{WAIT} (io), 39 P74/P/~{D}/INT6 (io), 40 P73/ADTRG/RXCLK/INT5 (io), 41 P72/CLKOUT/TXCLK/INT4 (io), 42 P71/SOUT (io), 43 P70/SIN (io), 44 P20/NMI (io), 45 P21/SDI/P/~{D} (io), 46 P22/INT2/SCK (io), 47 P23/SDO (io), 48 P24/INT1/WRSTB5 (io), 49 P25/WRRDY5 (io), 50 P26/INT3/RDSTB5/P/~{D} (io), 51 P27/RRDY5 (io), 52 P40/AIN0 (io), 53 P41/AIN1 (io), 54 P42/AIN2 (io), 55 P43/AIN3 (io), 56 P45/AIN5 (io), 57 P46/AIN6 (io), 58 P47/AIN7 (io), 59 AVDD (power), 60 AGND (power), 61 P44/AIN4 (io), 62 P57 (io), 63 P56 (io), 64 P55 (io), 65 P54 (io), 66 INT7 (in), 67 INT0 (in), 68 P53 (io)

## ST90E158M9G0
designator U?
8/16-Bit MCU with 64k EPROM, 2k RAM, ADC, Timers, SPI and Two SCI , 80-Pin CQFP; Published: 26-May-2004; LatestRevisionDate: 13-Apr-2006; LatestRevisionNote: IPC-7351 Footprint Added.; DatasheetVersion: rev3.3, Jan-2001; PackageVersion: rev3.3, Jan-2001; PackageReference: CQFP080; Publisher: Altium Limited; PackageDescription: 80-Pin Ceramic Quad Flat Pack Rectangular 0.8 mm Pitch; ComponentLink1Description: Manufacturer Link; ComponentLink1URL: http://www.st.com/
footprint CQFP080_N (QFP, 80-Leads, Body 20x14mm, Pitch 0.8mm, IPC Medium Density)
footprint CQFP080_L (QFP, 80-Leads, Body 20x14mm, Pitch 0.8mm, IPC High Density)
footprint CQFP080_M (QFP, 80-Leads, Body 20x14mm, Pitch 0.8mm, IPC Low Density)
3D model ST90E158-CQFP80 (80-Pin Ceramic Quad Flat Pack Rectangular 0.8 mm Pitch)
pins: 1 P0.4/AD4 (io), 2 P0.5/AD5 (io), 3 P0.6/AD6 (io), 4 VSS (power), 5 P0.7/AD7 (io), 6 VDD (power), 7 ~{AS} (out), 8 ~{DS} (out), 9 VPP (power), 10 P4.0 (io), 11 P4.1 (io), 12 P4.2/INTCLK (io), 13 P4.3/STOUT (io), 14 P4.4/INT0/WDOUT (io), 15 P4.5/INT4 (io), 16 P4.6/INT5/T0OUTB (io), 17 P4.7/T0OUTA (io), 18 P2.0 (io), 19 P2.1 (io), 20 P2.2 (io), 21 P2.3 (io), 22 P2.4 (io), 23 P2.5 (io), 24 P2.6 (io), 25 P9.0/S1OUT (io), 26 P9.1/T0OUTB/S1IN (io), 27 P9.2/TX1CKIN/CLK1OUT (io), 28 P9.4/S0OUT/RX1CKIN (io), 29 P9.5/S0IN (io), 30 P9.6/INT2/SCK (io), 31 P9.7/INT6/SDO (io), 32 P7.0/AIN0/RX0CKIN/WDIN/EXTRG (io), 33 P7.1/AIN1/T0INB (io), 34 P7.2/AIN2/CLK0OUT/TX0CKIN (io), 35 P7.3/AIN3/T0INA (io), 36 P7.4/AIN4 (io), 37 P7.5/AIN5 (io), 38 P7.6/AIN6 (io), 39 P7.7/AIN7 (io), 40 AVDD (power), 41 AVSS (power), 42 P8.7/NMI/T3OUTB (io), 43 P8.6/INT7/T3OUTA (io), 44 P8.5/T3INB (io), 45 P8.4/T1INA/~{WAIT}/WDOUT (io), 46 P8.3/T1OUTB/INT3 (io), 47 P8.2/T1OUTA/INT1 (io), 48 P8.1/T1INB (io), 49 P8.0/T3INA (io), 50 VDD (power), 51 P5.7/T3OUTB/RTS1/CK_AF (io), 52 P5.6/T3OUTA/DCD1 (io), 53 P5.5/T1OUTB/RTS0 (io), 54 P5.4/T1OUTA/DCD0 (io), 55 P5.3 (io), 56 HW0SW1 (io), 57 P5.1/SDI (io), 58 OSCOUT (out), 59 VSS (power), 60 OSCIN (in), 61 ~{RESET} (in), 62 P1.0/A8 (io), 63 P1.1/A9 (io), 64 P1.2/A10 (io), 65 P1.3/A11 (io), 66 P1.4/A12 (io), 67 P1.5/A13 (io), 68 P1.6/A14 (io), 69 P1.7/A15 (io), 70 P6.0 (io), 71 P6.1 (io), 72 P6.2 (io), 73 P6.3 (io), 74 P6.4 (io), 75 P6.5/R/~{W} (io), 76 P6.6 (io), 77 P0.0/AD0 (io), 78 P0.1/AD1 (io), 79 P0.2/AD2 (io), 80 P0.3/AD3 (io)

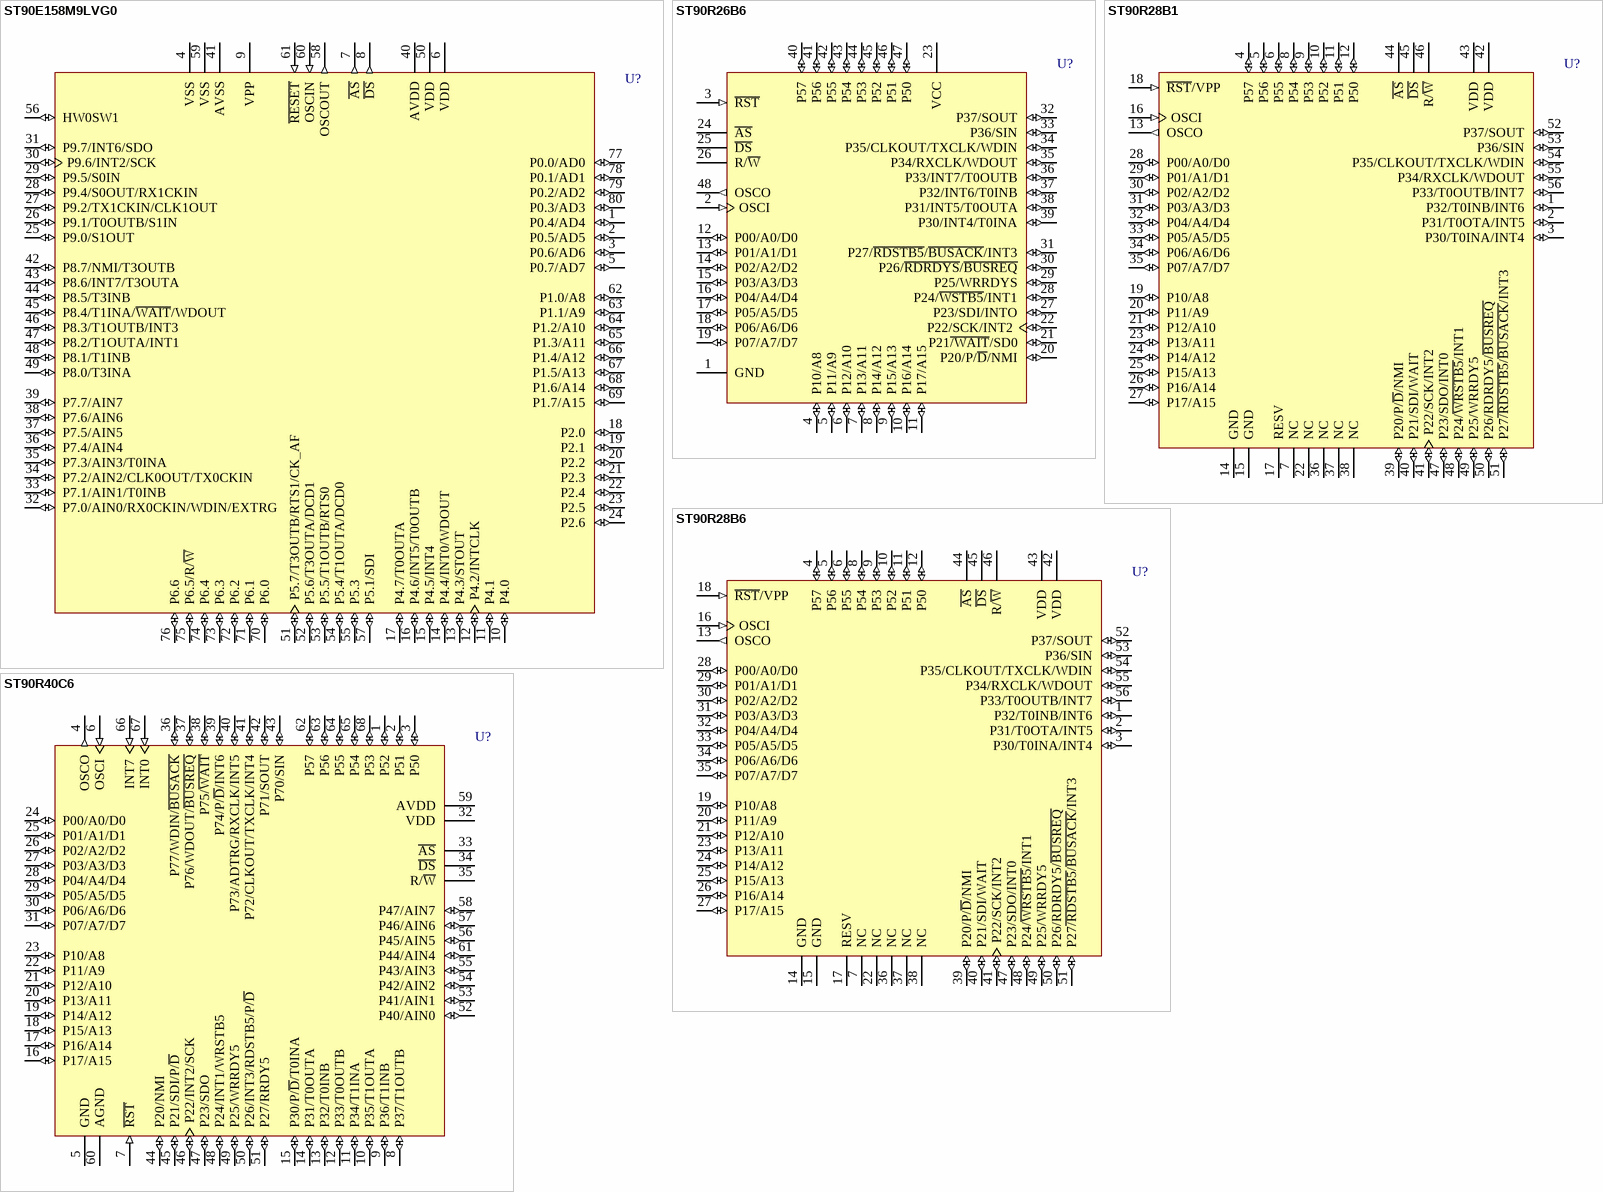
[diagram p66: symbols ST90E158M9LVG0 to ST90R40C6]

## ST90E158M9LVG0
designator U?
8/16-Bit MCU with 64k EPROM, 2k RAM, ADC, Timers, SPI and Two SCI , 80-Pin CQFP, Low Voltage; Published: 26-May-2004; LatestRevisionDate: 13-Apr-2006; LatestRevisionNote: IPC-7351 Footprint Added.; DatasheetVersion: rev3.3, Jan-2001; PackageVersion: rev3.3, Jan-2001; PackageReference: CQFP080; Publisher: Altium Limited; PackageDescription: 80-Pin Ceramic Quad Flat Pack Rectangular 0.8 mm Pitch; ComponentLink1Description: Manufacturer Link; ComponentLink1URL: http://www.st.com/
footprint CQFP080_N (QFP, 80-Leads, Body 20x14mm, Pitch 0.8mm, IPC Medium Density)
footprint CQFP080_L (QFP, 80-Leads, Body 20x14mm, Pitch 0.8mm, IPC High Density)
footprint CQFP080_M (QFP, 80-Leads, Body 20x14mm, Pitch 0.8mm, IPC Low Density)
3D model ST90E158-CQFP80 (80-Pin Ceramic Quad Flat Pack Rectangular 0.8 mm Pitch)
pins: 1 P0.4/AD4 (io), 2 P0.5/AD5 (io), 3 P0.6/AD6 (io), 4 VSS (power), 5 P0.7/AD7 (io), 6 VDD (power), 7 ~{AS} (out), 8 ~{DS} (out), 9 VPP (power), 10 P4.0 (io), 11 P4.1 (io), 12 P4.2/INTCLK (io), 13 P4.3/STOUT (io), 14 P4.4/INT0/WDOUT (io), 15 P4.5/INT4 (io), 16 P4.6/INT5/T0OUTB (io), 17 P4.7/T0OUTA (io), 18 P2.0 (io), 19 P2.1 (io), 20 P2.2 (io), 21 P2.3 (io), 22 P2.4 (io), 23 P2.5 (io), 24 P2.6 (io), 25 P9.0/S1OUT (io), 26 P9.1/T0OUTB/S1IN (io), 27 P9.2/TX1CKIN/CLK1OUT (io), 28 P9.4/S0OUT/RX1CKIN (io), 29 P9.5/S0IN (io), 30 P9.6/INT2/SCK (io), 31 P9.7/INT6/SDO (io), 32 P7.0/AIN0/RX0CKIN/WDIN/EXTRG (io), 33 P7.1/AIN1/T0INB (io), 34 P7.2/AIN2/CLK0OUT/TX0CKIN (io), 35 P7.3/AIN3/T0INA (io), 36 P7.4/AIN4 (io), 37 P7.5/AIN5 (io), 38 P7.6/AIN6 (io), 39 P7.7/AIN7 (io), 40 AVDD (power), 41 AVSS (power), 42 P8.7/NMI/T3OUTB (io), 43 P8.6/INT7/T3OUTA (io), 44 P8.5/T3INB (io), 45 P8.4/T1INA/~{WAIT}/WDOUT (io), 46 P8.3/T1OUTB/INT3 (io), 47 P8.2/T1OUTA/INT1 (io), 48 P8.1/T1INB (io), 49 P8.0/T3INA (io), 50 VDD (power), 51 P5.7/T3OUTB/RTS1/CK_AF (io), 52 P5.6/T3OUTA/DCD1 (io), 53 P5.5/T1OUTB/RTS0 (io), 54 P5.4/T1OUTA/DCD0 (io), 55 P5.3 (io), 56 HW0SW1 (io), 57 P5.1/SDI (io), 58 OSCOUT (out), 59 VSS (power), 60 OSCIN (in), 61 ~{RESET} (in), 62 P1.0/A8 (io), 63 P1.1/A9 (io), 64 P1.2/A10 (io), 65 P1.3/A11 (io), 66 P1.4/A12 (io), 67 P1.5/A13 (io), 68 P1.6/A14 (io), 69 P1.7/A15 (io), 70 P6.0 (io), 71 P6.1 (io), 72 P6.2 (io), 73 P6.3 (io), 74 P6.4 (io), 75 P6.5/R/~{W} (io), 76 P6.6 (io), 77 P0.0/AD0 (io), 78 P0.1/AD1 (io), 79 P0.2/AD2 (io), 80 P0.3/AD3 (io)

## ST90R26B6
designator U?
Romless HCMOS MCU with RAM and A/D Converter; Published: 24-Aug-2001; LatestRevisionDate: 06-Jun-2005; LatestRevisionNote: Stylized 3D Model Added.; DatasheetVersion: May-1991; PackageVersion: Feb-1995; PackageReference: PDIP48; Publisher: Altium Limited; PackageDescription: DIP, Plastic; 48 Leads; Row Spacing 15.24 mm; Pitch 2.54 mm; ComponentLink1Description: Manufacturer Link; ComponentLink1URL: http://www.st.com/
footprint PDIP48 (DIP, Plastic; 48 Leads; Row Spacing 15.24 mm; Pitch 2.54 mm)
3D model PDIP48 (DIP, Plastic; 48 Leads; Row Spacing 15.24 mm; Pitch 2.54 mm)
pins: 1 GND (power), 2 OSCI (in), 3 ~{RST} (in), 4 P10/A8 (io), 5 P11/A9 (io), 6 P12/A10 (io), 7 P13/A11 (io), 8 P14/A12 (io), 9 P15/A13 (io), 10 P16/A14 (io), 11 P17/A15 (io), 12 P00/A0/D0 (io), 13 P01/A1/D1 (io), 14 P02/A2/D2 (io), 15 P03/A3/D3 (io), 16 P04/A4/D4 (io), 17 P05/A5/D5 (io), 18 P06/A6/D6 (io), 19 P07/A7/D7 (io), 20 P20/P/~{D}/NMI (io), 21 P21~{/WAIT}/SD0 (io), 22 P22/SCK/INT2 (io), 23 VCC (power), 24 ~{AS} (hiz), 25 ~{DS} (hiz), 26 R/~{W} (hiz), 27 P23/SDI/INTO (io), 28 P24/~{WSTB5}/INT1 (io), 29 P25/WRRDYS (io), 30 P26/~{RDRDYS}/~{BUSREQ} (io), 31 P27/~{RDSTB5}/~{BUSACK}/INT3 (io), 32 P37/SOUT (io), 33 P36/SIN (io), 34 P35/CLKOUT/TXCLK/WDIN (io), 35 P34/RXCLK/WDOUT (io), 36 P33/INT7/T0OUTB (io), 37 P32/INT6/T0INB (io), 38 P31/INT5/T0OUTA (io), 39 P30/INT4/T0INA (io), 40 P57 (io), 41 P56 (io), 42 P55 (io), 43 P54 (io), 44 P53 (io), 45 P52 (io), 46 P51 (io), 47 P50 (io), 48 OSCO (out)

## ST90R28B1
designator U?
Romless HCMOS MCU with RAM; Published: 24-Aug-2001; LatestRevisionDate: 06-Jun-2005; LatestRevisionNote: Stylized 3D Model Added.; DatasheetVersion: Jan-1995; PackageVersion: Jan-2002; PackageReference: PSDIP56; Publisher: Altium Limited; PackageDescription: DIP, Plastic Shrink; 56 Leads; Row Spacing 15.24 mm; Pitch 1.78 mm; ComponentLink1Description: Manufacturer Link; ComponentLink1URL: http://www.st.com/
footprint PSDIP56 (DIP, Plastic Shrink; 56 Leads; Row Spacing 15.24 mm; Pitch 1.78 mm)
3D model PSDIP56 (DIP, Plastic Shrink; 56 Leads; Row Spacing 15.24 mm; Pitch 1.78 mm)
pins: 1 P32/T0INB/INT6 (io), 2 P31/T0OTA/INT5 (io), 3 P30/T0INA/INT4 (io), 4 P57 (io), 5 P56 (io), 6 P55 (io), 7 NC, 8 P54 (io), 9 P53 (io), 10 P52 (io), 11 P51 (io), 12 P50 (io), 13 OSCO (out), 14 GND (power), 15 GND (power), 16 OSCI (in), 17 RESV, 18 ~{RST}/VPP (in), 19 P10/A8 (io), 20 P11/A9 (io), 21 P12/A10 (io), 22 NC, 23 P13/A11 (io), 24 P14/A12 (io), 25 P15/A13 (io), 26 P16/A14 (io), 27 P17/A15 (io), 28 P00/A0/D0 (io), 29 P01/A1/D1 (io), 30 P02/A2/D2 (io), 31 P03/A3/D3 (io), 32 P04/A4/D4 (io), 33 P05/A5/D5 (io), 34 P06/A6/D6 (io), 35 P07/A7/D7 (io), 36 NC, 37 NC, 38 NC, 39 P20/P/~{D}/NMI (io), 40 P21/SDI/WAIT (io), 41 P22/SCK/INT2 (io), 42 VDD (power), 43 VDD (power), 44 ~{AS} (hiz), 45 ~{DS} (hiz), 46 R/~{W} (hiz), 47 P23/SDO/INT0 (io), 48 P24/~{WRSTB5}/INT1 (io), 49 P25/WRRDY5 (io), 50 P26/RDRDY5/~{BUSREQ} (io), 51 P27~{/RDSTB5}/~{BUSACK}/INT3 (io), 52 P37/SOUT (io), 53 P36/SIN (io), 54 P35/CLKOUT/TXCLK/WDIN (io), 55 P34/RXCLK/WDOUT (io), 56 P33/T0OUTB/INT7 (io)

## ST90R28B6
designator U?
Romless HCMOS MCU with RAM; Published: 24-Aug-2001; LatestRevisionDate: 06-Jun-2005; LatestRevisionNote: Stylized 3D Model Added.; DatasheetVersion: Jan-1995; PackageVersion: Jan-2002; PackageReference: PSDIP56; Publisher: Altium Limited; PackageDescription: DIP, Plastic Shrink; 56 Leads; Row Spacing 15.24 mm; Pitch 1.78 mm; ComponentLink1Description: Manufacturer Link; ComponentLink1URL: http://www.st.com/
footprint PSDIP56 (DIP, Plastic Shrink; 56 Leads; Row Spacing 15.24 mm; Pitch 1.78 mm)
3D model PSDIP56 (DIP, Plastic Shrink; 56 Leads; Row Spacing 15.24 mm; Pitch 1.78 mm)
pins: 1 P32/T0INB/INT6 (io), 2 P31/T0OTA/INT5 (io), 3 P30/T0INA/INT4 (io), 4 P57 (io), 5 P56 (io), 6 P55 (io), 7 NC, 8 P54 (io), 9 P53 (io), 10 P52 (io), 11 P51 (io), 12 P50 (io), 13 OSCO (out), 14 GND (power), 15 GND (power), 16 OSCI (in), 17 RESV, 18 ~{RST}/VPP (in), 19 P10/A8 (io), 20 P11/A9 (io), 21 P12/A10 (io), 22 NC, 23 P13/A11 (io), 24 P14/A12 (io), 25 P15/A13 (io), 26 P16/A14 (io), 27 P17/A15 (io), 28 P00/A0/D0 (io), 29 P01/A1/D1 (io), 30 P02/A2/D2 (io), 31 P03/A3/D3 (io), 32 P04/A4/D4 (io), 33 P05/A5/D5 (io), 34 P06/A6/D6 (io), 35 P07/A7/D7 (io), 36 NC, 37 NC, 38 NC, 39 P20/P/~{D}/NMI (io), 40 P21/SDI/WAIT (io), 41 P22/SCK/INT2 (io), 42 VDD (power), 43 VDD (power), 44 ~{AS} (hiz), 45 ~{DS} (hiz), 46 R/~{W} (hiz), 47 P23/SDO/INT0 (io), 48 P24/~{WRSTB5}/INT1 (io), 49 P25/WRRDY5 (io), 50 P26/RDRDY5/~{BUSREQ} (io), 51 P27~{/RDSTB5}/~{BUSACK}/INT3 (io), 52 P37/SOUT (io), 53 P36/SIN (io), 54 P35/CLKOUT/TXCLK/WDIN (io), 55 P34/RXCLK/WDOUT (io), 56 P33/T0OUTB/INT7 (io)

## ST90R40C6
designator U?
Romless HCMOS MCU with EEPROM, RAM and A/D Converter; Published: 24-Aug-2001; LatestRevisionDate: 13-Apr-2006; LatestRevisionNote: IPC-7351 Footprint Added.; DatasheetVersion: Mar-1994; PackageReference: PLCC68A; Publisher: Altium Limited; PackageDescription: 68-Pin Leaded Chip Carrier 1.27 mm Pitch; Code_IPC: PLCC-68; ComponentLink1Description: Manufacturer Link; ComponentLink1URL: http://www.st.com/
footprint PLCC68A_N (Leaded Chip Carrier, 68-Leads, Body 24x24mm, Pitch 1.27mm, IPC Medium Density)
footprint PLCC68A_L (Leaded Chip Carrier, 68-Leads, Body 24x24mm, Pitch 1.27mm, IPC High Density)
footprint PLCC68A_M (Leaded Chip Carrier, 68-Leads, Body 24x24mm, Pitch 1.27mm, IPC Low Density)
3D model ST90R40-PLCC68 (68-Pin Leaded Chip Carrier 1.27 mm Pitch)
pins: 1 P52 (io), 2 P51 (io), 3 P50 (io), 4 OSCO (out), 5 GND (power), 6 OSCI (in), 7 ~{RST} (in), 8 P37/T1OUTB (io), 9 P36/T1INB (io), 10 P35/T1OUTA (io), 11 P34/T1INA (io), 12 P33/T0OUTB (io), 13 P32/T0INB (io), 14 P31/T0OUTA (io), 15 P30/P/~{D}/T0INA (io), 16 P17/A15 (io), 17 P16/A14 (io), 18 P15/A13 (io), 19 P14/A12 (io), 20 P13/A11 (io), 21 P12/A10 (io), 22 P11/A9 (io), 23 P10/A8 (io), 24 P00/A0/D0 (io), 25 P01/A1/D1 (io), 26 P02/A2/D2 (io), 27 P03/A3/D3 (io), 28 P04/A4/D4 (io), 29 P05/A5/D5 (io), 30 P06/A6/D6 (io), 31 P07/A7/D7 (io), 32 VDD (power), 33 ~{AS} (hiz), 34 ~{DS} (hiz), 35 R/~{W} (hiz), 36 P77/WDIN/~{BUSACK} (io), 37 P76/WDOUT/~{BUSREQ} (io), 38 P75/~{WAIT} (io), 39 P74/P/~{D}/INT6 (io), 40 P73/ADTRG/RXCLK/INT5 (io), 41 P72/CLKOUT/TXCLK/INT4 (io), 42 P71/SOUT (io), 43 P70/SIN (io), 44 P20/NMI (io), 45 P21/SDI/P/~{D} (io), 46 P22/INT2/SCK (io), 47 P23/SDO (io), 48 P24/INT1/WRSTB5 (io), 49 P25/WRRDY5 (io), 50 P26/INT3/RDSTB5/P/~{D} (io), 51 P27/RRDY5 (io), 52 P40/AIN0 (io), 53 P41/AIN1 (io), 54 P42/AIN2 (io), 55 P43/AIN3 (io), 56 P45/AIN5 (io), 57 P46/AIN6 (io), 58 P47/AIN7 (io), 59 AVDD (power), 60 AGND (power), 61 P44/AIN4 (io), 62 P57 (io), 63 P56 (io), 64 P55 (io), 65 P54 (io), 66 INT7 (in), 67 INT0 (in), 68 P53 (io)

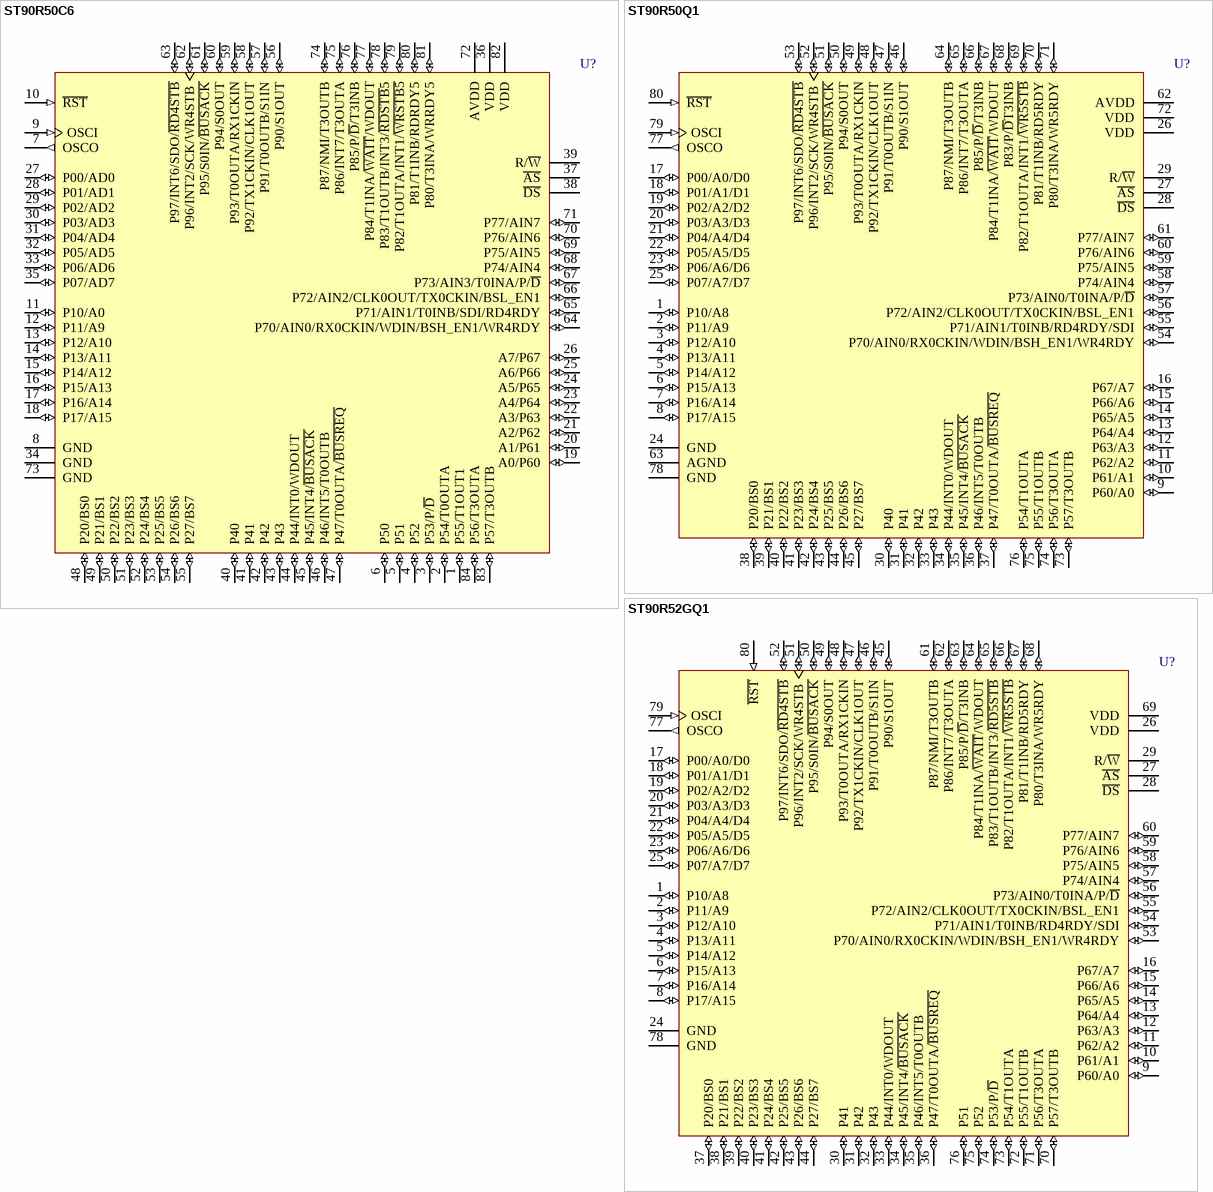
[diagram p67: symbols ST90R50C6 to ST90R52GQ1]

## ST90R50C6
designator U?
Romless HCMOS MCU with Bankswitch and A/D Converter; Published: 24-Aug-2001; LatestRevisionDate: 13-Apr-2006; LatestRevisionNote: IPC-7351 Footprint Added.; DatasheetVersion: Feb-1997; PackageReference: PLCC84A; Publisher: Altium Limited; PackageDescription: 84-Pin Leaded Chip Carrier 1.27 mm Pitch; ComponentLink1Description: Manufacturer Link; ComponentLink1URL: http://www.st.com/
footprint PLCC84A_N (Leaded Chip Carrier, 84-Leads, Body 29.3x29.3mm, Pitch 1.27mm, IPC Medium Density)
footprint PLCC84A_L (Leaded Chip Carrier, 84-Leads, Body 29.3x29.3mm, Pitch 1.27mm, IPC High Density)
footprint PLCC84A_M (Leaded Chip Carrier, 84-Leads, Body 29.3x29.3mm, Pitch 1.27mm, IPC Low Density)
3D model ST90R50-PLCC84 (84-Pin Leaded Chip Carrier 1.27 mm Pitch)
pins: 1 P55/T1OUT1 (io), 2 P54/T0OUTA (io), 3 P53/P/~{D} (io), 4 P52 (io), 5 P51 (io), 6 P50 (io), 7 OSCO (out), 8 GND (power), 9 OSCI (in), 10 ~{RST} (in), 11 P10/A0 (io), 12 P11/A9 (io), 13 P12/A10 (io), 14 P13/A11 (io), 15 P14/A12 (io), 16 P15/A13 (io), 17 P16/A14 (io), 18 P17/A15 (io), 19 A0/P60 (io), 20 A1/P61 (io), 21 A2/P62 (io), 22 A3/P63 (io), 23 A4/P64 (io), 24 A5/P65 (io), 25 A6/P66 (io), 26 A7/P67 (io), 27 P00/AD0 (io), 28 P01/AD1 (io), 29 P02/AD2 (io), 30 P03/AD3 (io), 31 P04/AD4 (io), 32 P05/AD5 (io), 33 P06/AD6 (io), 34 GND (power), 35 P07/AD7 (io), 36 VDD (power), 37 ~{AS} (hiz), 38 ~{DS} (hiz), 39 R/~{W} (hiz), 40 P40 (io), 41 P41 (io), 42 P42 (io), 43 P43 (io), 44 P44/INT0/WDOUT (io), 45 P45/INT4/~{BUSACK} (io), 46 P46/INT5/T0OUTB (io), 47 P47/T0OUTA/~{BUSREQ} (io), 48 P20/BS0 (io), 49 P21/BS1 (io), 50 P22/BS2 (io), 51 P23/BS3 (io), 52 P24/BS4 (io), 53 P25/BS5 (io), 54 P26/BS6 (io), 55 P27/BS7 (io), 56 P90/S1OUT (io), 57 P91/T0OUTB/S1IN (io), 58 P92/TX1CKIN/CLK1OUT (io), 59 P93/T0OUTA/RX1CKIN (io), 60 P94/S0OUT (io), 61 P95/S0IN/~{BUSACK} (io), 62 P96/INT2/SCK/WR4STB (io), 63 P97/INT6/SDO/~{RD4STB} (io), 64 P70/AIN0/RX0CKIN/WDIN/BSH_EN1/WR4RDY (io), 65 P71/AIN1/T0INB/SDI/RD4RDY (io), 66 P72/AIN2/CLK0OUT/TX0CKIN/BSL_EN1 (io), 67 P73/AIN3/T0INA/P/~{D} (io), 68 P74/AIN4 (io), 69 P75/AIN5 (io), 70 P76/AIN6 (io), 71 P77/AIN7 (io), 72 AVDD (power), 73 GND (power), 74 P87/NMI/T3OUTB (io), 75 P86/INT7/T3OUTA (io), 76 P85/P/~{D}/T3INB (io), 77 P84/T1INA/~{WAIT}/WDOUT (io), 78 P83/T1OUTB/INT3/~{RDSTB}5 (io), 79 P82/T1OUTA/INT1/~{WRSTB5} (io), 80 P81/T1INB/RDRDY5 (io), 81 P80/T3INA/WRRDY5 (io), 82 VDD (power), 83 P57/T3OUTB (io), 84 P56/T3OUTA (io)